# Altium integrated library Freescale DSP 16-Bit.IntLib: 19 symbols (part 1 of 2)
Pins are listed as number, name and electrical type; pins without a type are passive.

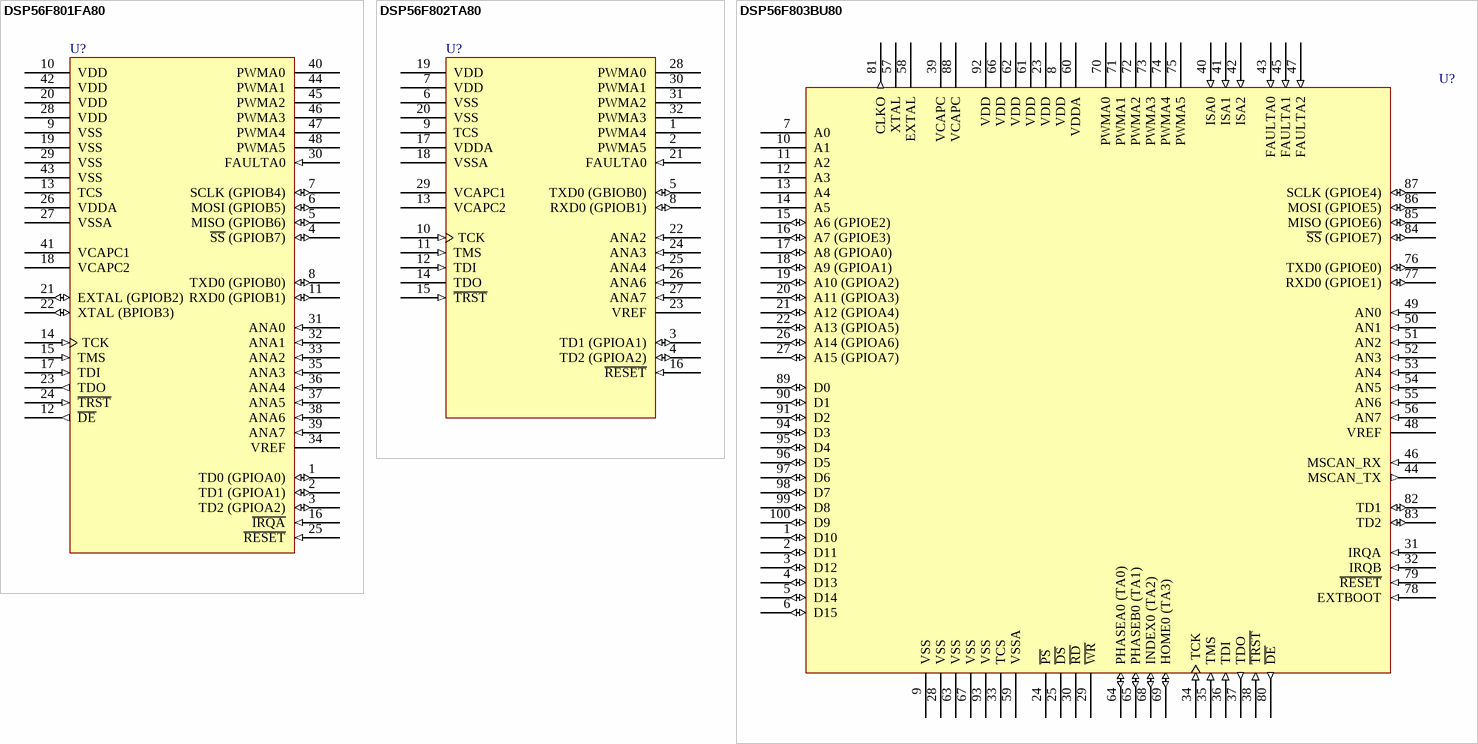
[diagram p0: symbols DSP56F801FA80 to DSP56F803BU80]

## DSP56F801FA80
designator U?
DSP56800 General Purpose 16-Bit Fixed Point DSP; Published: 21-Mar-2003; LatestRevisionDate: 13-Apr-2006; LatestRevisionNote: IPC-7351 Footprint Added.; DatasheetVersion: Rev. 7.0, Jan-2002; PackageVersion: rev7, Jan-2002; PackageReference: 932-03; Publisher: Altium Limited; PackageDescription: 48-Pin Thin Quad Flat Pack 0.5 mm Pitch; ComponentLink1Description: Manufacturer Link; ComponentLink1URL: http://www.freescale.com/; ComponentLink2Description: Datasheet; ComponentLink2URL: http://www.freescale.com/files/dsp/doc/data_sheet/DSP56F801.pdf
footprint 932-03_N (Thin QFP, 48-Leads, Body 7x7mm, Pitch 0.5mm, IPC Medium Density)
footprint 932-03_L (Thin QFP, 48-Leads, Body 7x7mm, Pitch 0.5mm, IPC High Density)
footprint 932-03_M (Thin QFP, 48-Leads, Body 7x7mm, Pitch 0.5mm, IPC Low Density)
3D model DSP56F801-932-03 (48-Pin Thin Quad Flat Pack 0.5 mm Pitch)
pins: 1 TD0 (GPIOA0) (io), 2 TD1 (GPIOA1) (io), 3 TD2 (GPIOA2) (io), 4 ~{SS} (GPIOB7) (io), 5 MISO (GPIOB6) (io), 6 MOSI (GPIOB5) (io), 7 SCLK (GPIOB4) (io), 8 TXD0 (GPIOB0) (io), 9 VSS (power), 10 VDD (power), 11 RXD0 (GPIOB1) (io), 12 ~{DE} (out), 13 TCS, 14 TCK (in), 15 TMS (in), 16 ~{IRQA} (in), 17 TDI (in), 18 VCAPC2 (power), 19 VSS (power), 20 VDD (power), 21 EXTAL (GPIOB2) (io), 22 XTAL (BPIOB3) (io), 23 TDO (out), 24 ~{TRST} (in), 25 ~{RESET} (in), 26 VDDA (power), 27 VSSA (power), 28 VDD (power), 29 VSS (power), 30 FAULTA0 (in), 31 ANA0 (in), 32 ANA1 (in), 33 ANA2 (in), 34 VREF, 35 ANA3 (in), 36 ANA4 (in), 37 ANA5 (in), 38 ANA6 (in), 39 ANA7 (in), 40 PWMA0 (hiz), 41 VCAPC1 (power), 42 VDD (power), 43 VSS (power), 44 PWMA1 (hiz), 45 PWMA2 (hiz), 46 PWMA3 (hiz), 47 PWMA4 (hiz), 48 PWMA5 (hiz)

## DSP56F802TA80
designator U?
DSP56800 General Purpose 16-Bit Fixed Point DSP; Published: 21-Mar-2003; LatestRevisionDate: 13-Apr-2006; LatestRevisionNote: IPC-7351 Footprint Added.; DatasheetVersion: Rev. 0, Jan-2002; PackageReference: 873A; Publisher: Altium Limited; PackageDescription: 32-Pin Thin Quad Flat Pack 0.8 mm Pitch; ComponentLink1Description: Manufacturer Link; ComponentLink1URL: http://www.freescale.com/; ComponentLink2Description: Datasheet; ComponentLink2URL: http://www.freescale.com/files/dsp/doc/data_sheet/DSP56F802.pdf
footprint 873A_N (Thin QFP, 32-Leads, Body 7x7mm, Pitch 0.8mm, IPC Medium Density)
footprint 873A_L (Thin QFP, 32-Leads, Body 7x7mm, Pitch 0.8mm, IPC High Density)
footprint 873A_M (Thin QFP, 32-Leads, Body 7x7mm, Pitch 0.8mm, IPC Low Density)
3D model DSP56F802-873A (32-Pin Thin Quad Flat Pack 0.8 mm Pitch)
pins: 1 PWMA4 (hiz), 2 PWMA5 (hiz), 3 TD1 (GPIOA1) (io), 4 TD2 (GPIOA2) (io), 5 TXD0 (GBIOB0) (io), 6 VSS (power), 7 VDD (power), 8 RXD0 (GPIOB1) (io), 9 TCS, 10 TCK (in), 11 TMS (in), 12 TDI (in), 13 VCAPC2 (power), 14 TDO (hiz), 15 ~{TRST} (in), 16 ~{RESET} (in), 17 VDDA (power), 18 VSSA (power), 19 VDD (power), 20 VSS (power), 21 FAULTA0 (in), 22 ANA2 (in), 23 VREF, 24 ANA3 (in), 25 ANA4 (in), 26 ANA6 (in), 27 ANA7 (in), 28 PWMA0 (hiz), 29 VCAPC1 (power), 30 PWMA1 (hiz), 31 PWMA2 (hiz), 32 PWMA3 (hiz)

## DSP56F803BU80
designator U?
DSP56800 General Purpose 16-Bit Fixed Point DSP; Published: 21-Mar-2003; LatestRevisionDate: 13-Apr-2006; LatestRevisionNote: IPC-7351 Footprint Added.; DatasheetVersion: Rev. 8.0, Jan-2002; PackageVersion: rev4, Jan-2002; PackageReference: 842F-01; Publisher: Altium Limited; PackageDescription: 100-Pin Thin Quad Flat Pack 0.5 mm Pitch; ComponentLink1Description: Manufacturer Link; ComponentLink1URL: http://www.freescale.com/; ComponentLink2Description: Datasheet; ComponentLink2URL: http://www.freescale.com/files/dsp/doc/data_sheet/DSP56F803.pdf
footprint 842F-01_N (Thin QFP, 100-Leads, Body 14x14mm, Pitch 0.5mm, IPC Medium Density)
footprint 842F-01_L (Thin QFP, 100-Leads, Body 14x14mm, Pitch 0.5mm, IPC High Density)
footprint 842F-01_M (Thin QFP, 100-Leads, Body 14x14mm, Pitch 0.5mm, IPC Low Density)
3D model DSP56F803-842F-01 (100-Pin Thin Quad Flat Pack 0.5 mm Pitch)
pins: 1 D10 (io), 2 D11 (io), 3 D12 (io), 4 D13 (io), 5 D14 (io), 6 D15 (io), 7 A0 (hiz), 8 VDD (power), 9 VSS (power), 10 A1 (hiz), 11 A2 (hiz), 12 A3 (hiz), 13 A4 (hiz), 14 A5 (hiz), 15 A6 (GPIOE2) (io), 16 A7 (GPIOE3) (io), 17 A8 (GPIOA0) (io), 18 A9 (GPIOA1) (io), 19 A10 (GPIOA2) (io), 20 A11 (GPIOA3) (io), 21 A12 (GPIOA4) (io), 22 A13 (GPIOA5) (io), 23 VDD (power), 24 ~{PS} (hiz), 25 ~{DS} (hiz), 26 A14 (GPIOA6) (io), 27 A15 (GPIOA7) (io), 28 VSS (power), 29 ~{WR} (hiz), 30 ~{RD} (hiz), 31 IRQA (in), 32 IRQB (in), 33 TCS, 34 TCK (in), 35 TMS (in), 36 TDI (in), 37 TDO (out), 38 ~{TRST} (in), 39 VCAPC (power), 40 ISA0 (in), 41 ISA1 (in), 42 ISA2 (in), 43 FAULTA0 (in), 44 MSCAN_TX (out), 45 FAULTA1 (in), 46 MSCAN_RX (in), 47 FAULTA2 (in), 48 VREF, 49 AN0 (in), 50 AN1 (in), 51 AN2 (in), 52 AN3 (in), 53 AN4 (in), 54 AN5 (in), 55 AN6 (in), 56 AN7 (in), 57 XTAL, 58 EXTAL, 59 VSSA (power), 60 VDDA (power), 61 VDD (power), 62 VDD (power), 63 VSS (power), 64 PHASEA0 (TA0) (io), 65 PHASEB0 (TA1) (io), 66 VDD (power), 67 VSS (power), 68 INDEX0 (TA2) (io), 69 HOME0 (TA3) (io), 70 PWMA0 (hiz), 71 PWMA1 (hiz), 72 PWMA2 (hiz), 73 PWMA3 (hiz), 74 PWMA4 (hiz), 75 PWMA5 (hiz), 76 TXD0 (GPIOE0) (io), 77 RXD0 (GPIOE1) (io), 78 EXTBOOT (in), 79 ~{RESET} (in), 80 ~{DE} (out), 81 CLKO (out), 82 TD1 (io), 83 TD2 (io), 84 ~{SS} (GPIOE7) (io), 85 MISO (GPIOE6) (io), 86 MOSI (GPIOE5) (io), 87 SCLK (GPIOE4) (io), 88 VCAPC (power), 89 D0 (io), 90 D1 (io), 91 D2 (io), 92 VDD (power), 93 VSS (power), 94 D3 (io), 95 D4 (io), 96 D5 (io), 97 D6 (io), 98 D7 (io), 99 D8 (io), 100 D9 (io)

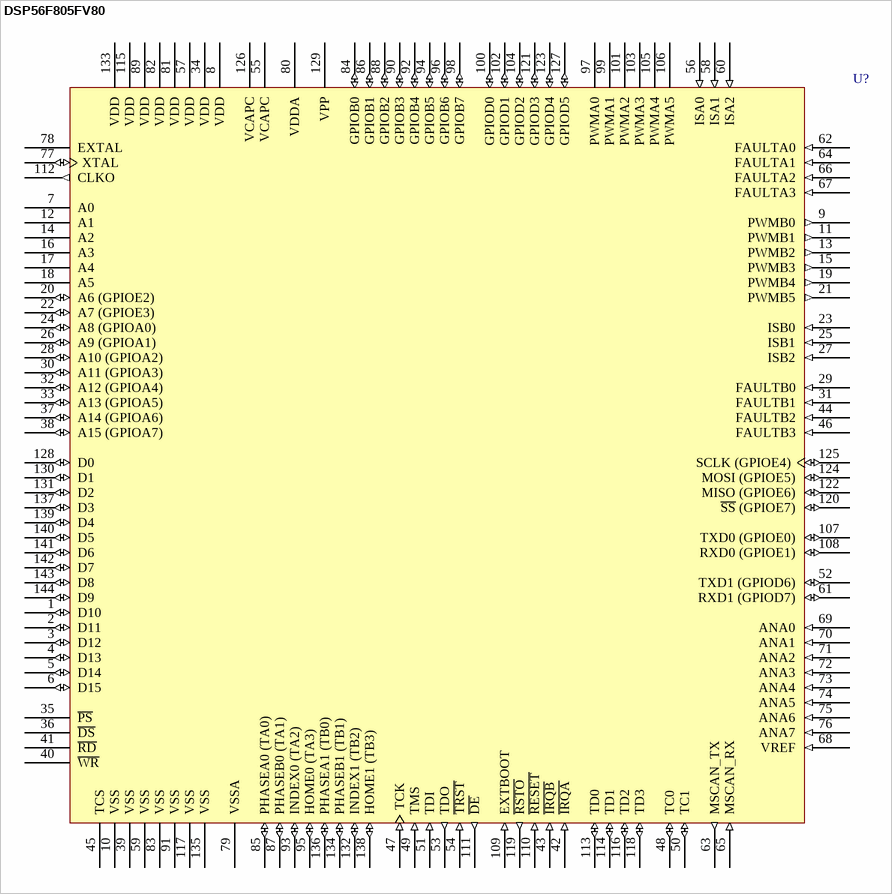
[diagram p1: symbol DSP56F805FV80]

## DSP56F805FV80
designator U?
DSP56800 General Purpose 16-Bit Fixed Point DSP; Published: 21-Mar-2003; LatestRevisionDate: 13-Apr-2006; LatestRevisionNote: IPC-7351 Footprint Added.; DatasheetVersion: Rev. 7.0, Jan-2002; PackageVersion: revF, May-2005; PackageReference: 918-03; Publisher: Altium Limited; PackageDescription: 144-Pin Low Profile Quad Flat Pack 0.5 mm Pitch (918-03); ComponentLink1Description: Manufacturer Link; ComponentLink1URL: http://www.freescale.com/; ComponentLink2Description: Datasheet; ComponentLink2URL: http://www.freescale.com/files/dsp/doc/data_sheet/DSP56F805.pdf
footprint 918-03_N (Thin QFP, 144-Leads, Body 20x20mm, Pitch 0.5mm, IPC Medium Density)
footprint 918-03_L (Thin QFP, 144-Leads, Body 20x20mm, Pitch 0.5mm, IPC High Density)
footprint 918-03_M (Thin QFP, 144-Leads, Body 20x20mm, Pitch 0.5mm, IPC Low Density)
3D model DSP56F805-918-03 (144-Pin Low Profile Quad Flat Pack 0.5 mm Pitch (918-03))
pins: 1 D10 (io), 2 D11 (io), 3 D12 (io), 4 D13 (io), 5 D14 (io), 6 D15 (io), 7 A0 (hiz), 8 VDD (power), 9 PWMB0 (out), 10 VSS (power), 11 PWMB1 (out), 12 A1 (hiz), 13 PWMB2 (out), 14 A2 (hiz), 15 PWMB3 (out), 16 A3 (hiz), 17 A4 (hiz), 18 A5 (hiz), 19 PWMB4 (out), 20 A6 (GPIOE2) (io), 21 PWMB5 (out), 22 A7 (GPIOE3) (io), 23 ISB0 (in), 24 A8 (GPIOA0) (io), 25 ISB1 (in), 26 A9 (GPIOA1) (io), 27 ISB2 (in), 28 A10 (GPIOA2) (io), 29 FAULTB0 (in), 30 A11 (GPIOA3) (io), 31 FAULTB1 (in), 32 A12 (GPIOA4) (io), 33 A13 (GPIOA5) (io), 34 VDD (power), 35 ~{PS} (hiz), 36 ~{DS} (hiz), 37 A14 (GPIOA6) (io), 38 A15 (GPIOA7) (io), 39 VSS (power), 40 ~{WR} (hiz), 41 ~{RD} (hiz), 42 ~{IRQA} (in), 43 ~{IRQB} (in), 44 FAULTB2 (in), 45 TCS, 46 FAULTB3 (in), 47 TCK (in), 48 TC0 (io), 49 TMS (in), 50 TC1 (io), 51 TDI (in), 52 TXD1 (GPIOD6) (io), 53 TDO (out), 54 ~{TRST} (in), 55 VCAPC (power), 56 ISA0 (in), 57 VDD (power), 58 ISA1 (in), 59 VSS (power), 60 ISA2 (in), 61 RXD1 (GPIOD7) (io), 62 FAULTA0 (in), 63 MSCAN_TX (out), 64 FAULTA1 (in), 65 MSCAN_RX (in), 66 FAULTA2 (in), 67 FAULTA3 (in), 68 VREF (in), 69 ANA0 (in), 70 ANA1 (in), 71 ANA2 (in), 72 ANA3 (in), 73 ANA4 (in), 74 ANA5 (in), 75 ANA6 (in), 76 ANA7 (in), 77 XTAL (io), 78 EXTAL, 79 VSSA (power), 80 VDDA (power), 81 VDD (power), 82 VDD (power), 83 VSS (power), 84 GPIOB0 (io), 85 PHASEA0 (TA0) (io), 86 GPIOB1 (io), 87 PHASEB0 (TA1) (io), 88 GPIOB2 (io), 89 VDD (power), 90 GPIOB3 (io), 91 VSS (power), 92 GPIOB4 (io), 93 INDEX0 (TA2) (io), 94 GPIOB5 (io), 95 HOME0 (TA3) (io), 96 GPIOB6 (io), 97 PWMA0 (hiz), 98 GPIOB7 (io), 99 PWMA1 (hiz), 100 GPIOD0 (io), 101 PWMA2 (hiz), 102 GPIOD1 (io), 103 PWMA3 (hiz), 104 GPIOD2 (io), 105 PWMA4 (hiz), 106 PWMA5 (hiz), 107 TXD0 (GPIOE0) (io), 108 RXD0 (GPIOE1) (io), 109 EXTBOOT (in), 110 ~{RESET} (in), 111 ~{DE} (out), 112 CLKO (out), 113 TD0 (io), 114 TD1 (io), 115 VDD (power), 116 TD2 (io), 117 VSS (power), 118 TD3 (io), 119 ~{RSTO} (out), 120 ~{SS} (GPIOE7) (io), 121 GPIOD3 (io), 122 MISO (GPIOE6) (io), 123 GPIOD4 (io), 124 MOSI (GPIOE5) (io), 125 SCLK (GPIOE4) (io), 126 VCAPC (power), 127 GPIOD5 (io), 128 D0 (io), 129 VPP (power), 130 D1 (io), 131 D2 (io), 132 INDEX1 (TB2) (io), 133 VDD (power), 134 PHASEB1 (TB1) (io), 135 VSS (power), 136 PHASEA1 (TB0) (io), 137 D3 (io), 138 HOME1 (TB3) (io), 139 D4 (io), 140 D5 (io), 141 D6 (io), 142 D7 (io), 143 D8 (io), 144 D9 (io)

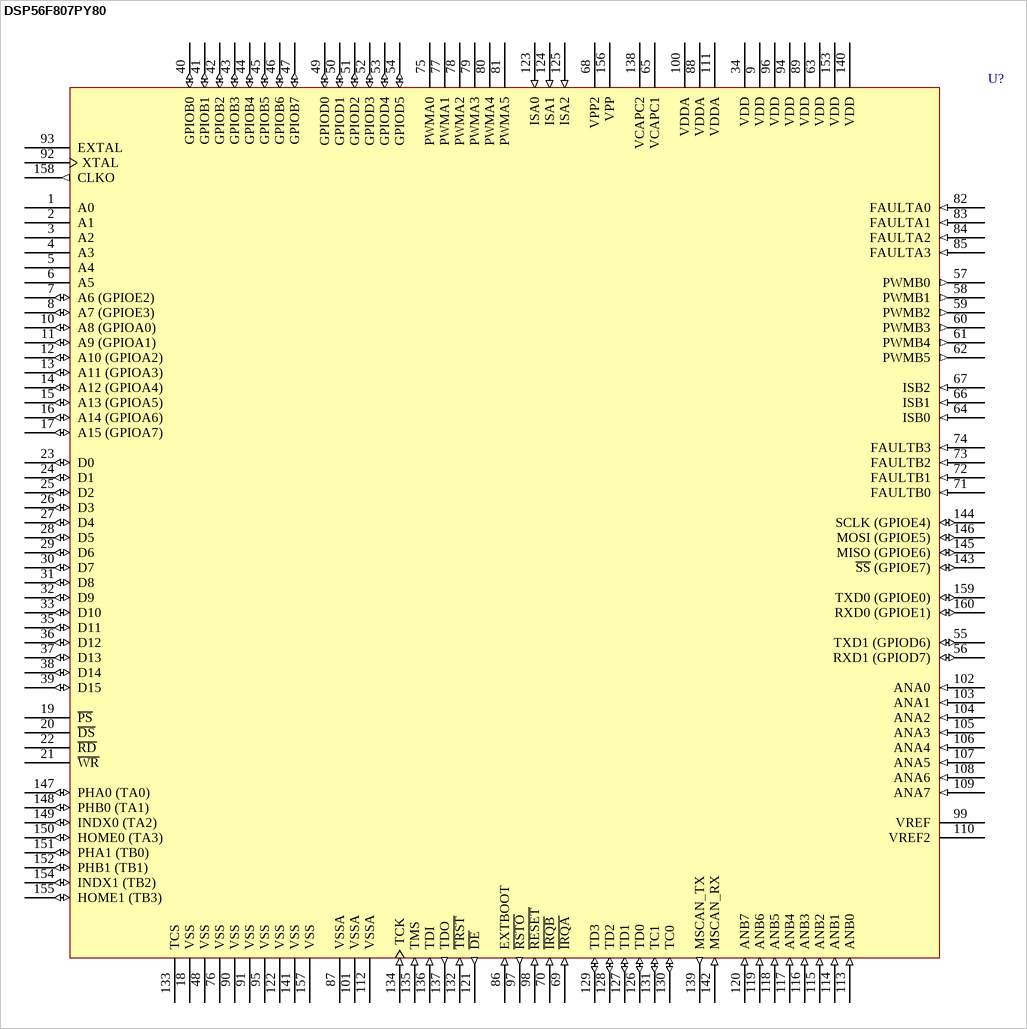
[diagram p2: symbol DSP56F807PY80]

## DSP56F807PY80
designator U?
DSP56800 General Purpose 16-Bit Fixed Point DSP; Published: 21-Mar-2003; LatestRevisionDate: 13-Apr-2006; LatestRevisionNote: IPC-7351 Footprint Added.; DatasheetVersion: Rev. 7.0, Jan-2002; PackageVersion: rev7, Jan-2002; PackageReference: 1259-01; Publisher: Altium Limited; PackageDescription: 160-Pin Thin Quad Flat Pack 0.5 mm Pitch; ComponentLink1Description: Manufacturer Link; ComponentLink1URL: http://www.freescale.com/; ComponentLink2Description: Datasheet; ComponentLink2URL: http://www.freescale.com/files/dsp/doc/data_sheet/DSP56F807.pdf
footprint 1259-01_N (Thin QFP, 160-Leads, Body 24x24mm, Pitch 0.5mm, IPC Medium Density)
footprint 1259-01_L (Thin QFP, 160-Leads, Body 24x24mm, Pitch 0.5mm, IPC High Density)
footprint 1259-01_M (Thin QFP, 160-Leads, Body 24x24mm, Pitch 0.5mm, IPC Low Density)
3D model DSP56F807-1259-01 (160-Pin Thin Quad Flat Pack 0.5 mm Pitch)
pins: 1 A0 (hiz), 2 A1 (hiz), 3 A2 (hiz), 4 A3 (hiz), 5 A4 (hiz), 6 A5 (hiz), 7 A6 (GPIOE2) (io), 8 A7 (GPIOE3) (io), 9 VDD (power), 10 A8 (GPIOA0) (io), 11 A9 (GPIOA1) (io), 12 A10 (GPIOA2) (io), 13 A11 (GPIOA3) (io), 14 A12 (GPIOA4) (io), 15 A13 (GPIOA5) (io), 16 A14 (GPIOA6) (io), 17 A15 (GPIOA7) (io), 18 VSS (power), 19 ~{PS} (hiz), 20 ~{DS} (hiz), 21 ~{WR} (hiz), 22 ~{RD} (hiz), 23 D0 (io), 24 D1 (io), 25 D2 (io), 26 D3 (io), 27 D4 (io), 28 D5 (io), 29 D6 (io), 30 D7 (io), 31 D8 (io), 32 D9 (io), 33 D10 (io), 34 VDD (power), 35 D11 (io), 36 D12 (io), 37 D13 (io), 38 D14 (io), 39 D15 (io), 40 GPIOB0 (io), 41 GPIOB1 (io), 42 GPIOB2 (io), 43 GPIOB3 (io), 44 GPIOB4 (io), 45 GPIOB5 (io), 46 GPIOB6 (io), 47 GPIOB7 (io), 48 VSS (power), 49 GPIOD0 (io), 50 GPIOD1 (io), 51 GPIOD2 (io), 52 GPIOD3 (io), 53 GPIOD4 (io), 54 GPIOD5 (io), 55 TXD1 (GPIOD6) (io), 56 RXD1 (GPIOD7) (io), 57 PWMB0 (out), 58 PWMB1 (out), 59 PWMB2 (out), 60 PWMB3 (out), 61 PWMB4 (out), 62 PWMB5 (out), 63 VDD (power), 64 ISB0 (in), 65 VCAPC1 (power), 66 ISB1 (in), 67 ISB2 (in), 68 VPP2, 69 ~{IRQA} (in), 70 ~{IRQB} (in), 71 FAULTB0 (in), 72 FAULTB1 (in), 73 FAULTB2 (in), 74 FAULTB3 (in), 75 PWMA0 (hiz), 76 VSS (power), 77 PWMA1 (hiz), 78 PWMA2 (hiz), 79 PWMA3 (hiz), 80 PWMA4 (hiz), 81 PWMA5 (hiz), 82 FAULTA0 (in), 83 FAULTA1 (in), 84 FAULTA2 (in), 85 FAULTA3 (in), 86 EXTBOOT (in), 87 VSSA (power), 88 VDDA (power), 89 VDD (power), 90 VSS (power), 91 VSS (power), 92 XTAL, 93 EXTAL, 94 VDD (power), 95 VSS (power), 96 VDD (power), 97 ~{RSTO} (out), 98 ~{RESET} (in), 99 VREF, 100 VDDA (power), 101 VSSA (power), 102 ANA0 (in), 103 ANA1 (in), 104 ANA2 (in), 105 ANA3 (in), 106 ANA4 (in), 107 ANA5 (in), 108 ANA6 (in), 109 ANA7 (in), 110 VREF2, 111 VDDA (power), 112 VSSA (power), 113 ANB0 (in), 114 ANB1 (in), 115 ANB2 (in), 116 ANB3 (in), 117 ANB4 (in), 118 ANB5 (in), 119 ANB6 (in), 120 ANB7 (in), 121 ~{DE} (out), 122 VSS (power), 123 ISA0 (in), 124 ISA1 (in), 125 ISA2 (in), 126 TD0 (io), 127 TD1 (io), 128 TD2 (io), 129 TD3 (io), 130 TC0 (io), 131 TC1 (io), 132 ~{TRST} (in), 133 TCS, 134 TCK (in), 135 TMS (in), 136 TDI (in), 137 TDO (out), 138 VCAPC2 (power), 139 MSCAN_TX (out), 140 VDD (power), 141 VSS (power), 142 MSCAN_RX (in), 143 ~{SS} (GPIOE7) (io), 144 SCLK (GPIOE4) (io), 145 MISO (GPIOE6) (io), 146 MOSI (GPIOE5) (io), 147 PHA0 (TA0) (io), 148 PHB0 (TA1) (io), 149 INDX0 (TA2) (io), 150 HOME0 (TA3) (io), 151 PHA1 (TB0) (io), 152 PHB1 (TB1) (io), 153 VDD (power), 154 INDX1 (TB2) (io), 155 HOME1 (TB3) (io), 156 VPP, 157 VSS (power), 158 CLKO (out), 159 TXD0 (GPIOE0) (io), 160 RXD0 (GPIOE1) (io)

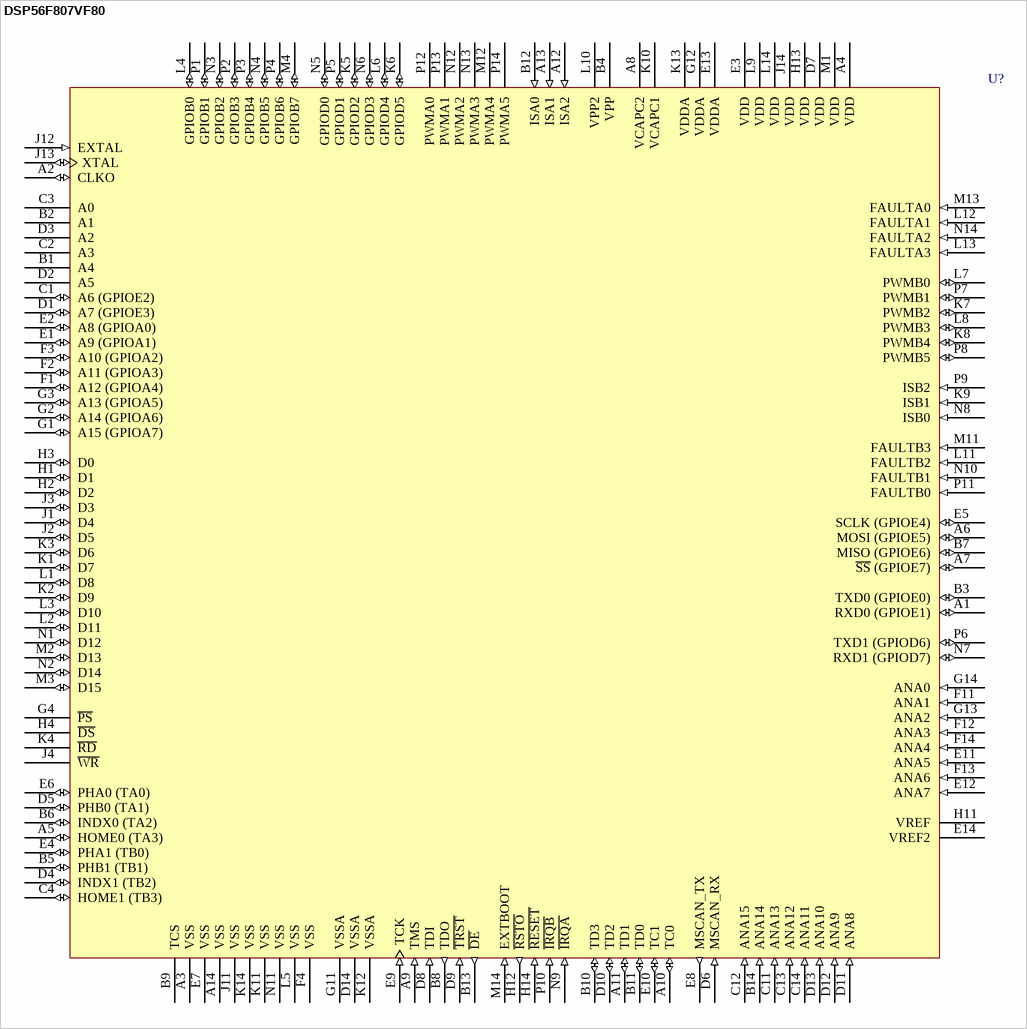
[diagram p3: symbol DSP56F807VF80]

## DSP56F807VF80
designator U?
DSP56800 General Purpose 16-Bit Fixed Point DSP; Published: 21-Mar-2003; LatestRevisionDate: 13-Apr-2006; LatestRevisionNote: IPC-7351 Footprint Added.; DatasheetVersion: Rev. 7.0, Jan-2002; PackageVersion: rev7, Jan-2002; PackageReference: 1268-01; Publisher: Altium Limited; PackageDescription: 160-Ball MAP-Ball Grid Array 1 mm Pitch; ComponentLink1Description: Manufacturer Link; ComponentLink1URL: http://www.freescale.com/; ComponentLink2Description: Datasheet; ComponentLink2URL: http://www.freescale.com/files/dsp/doc/data_sheet/DSP56F807.pdf
footprint 1268-01 (BGA, 160-Leads, Body 15x15mm, Pitch 1mm)
3D model DSP56F807-1268-01 (160-Ball MAP-Ball Grid Array 1 mm Pitch)
pins: A1 RXD0 (GPIOE1) (io), A2 CLKO (io), A3 VSS (power), A4 VDD (power), A5 HOME0 (TA3) (io), A6 MOSI (GPIOE5) (io), A7 ~{SS} (GPIOE7) (io), A8 VCAPC2, A9 TMS (in), A10 TC0 (io), A11 TD1 (io), A12 ISA2 (in), A13 ISA1 (in), A14 VSS (power), B1 A4 (hiz), B2 A1 (hiz), B3 TXD0 (GPIOE0) (io), B4 VPP, B5 PHB1 (TB1) (io), B6 INDX0 (TA2) (io), B7 MISO (GPIOE6) (io), B8 TDO (out), B9 TCS, B10 TD3 (io), B11 TD0 (io), B12 ISA0 (in), B13 ~{DE} (out), B14 ANA14 (in), C1 A6 (GPIOE2) (io), C2 A3 (hiz), C3 A0 (hiz), C4 HOME1 (TB3) (io), C11 ANA13 (in), C12 ANA15 (in), C13 ANA12 (in), C14 ANA11 (in), D1 A7 (GPIOE3) (io), D2 A5 (hiz), D3 A2 (hiz), D4 INDX1 (TB2) (io), D5 PHB0 (TA1) (io), D6 MSCAN_RX (in), D7 VDD (power), D8 TDI (in), D9 ~{TRST} (in), D10 TD2 (io), D11 ANA8 (in), D12 ANA9 (in), D13 ANA10 (in), D14 VSSA (power), E1 A9 (GPIOA1) (io), E2 A8 (GPIOA0) (io), E3 VDD (power), E4 PHA1 (TB0) (io), E5 SCLK (GPIOE4) (io), E6 PHA0 (TA0) (io), E7 VSS (power), E8 MSCAN_TX (out), E9 TCK (in), E10 TC1 (io), E11 ANA5 (in), E12 ANA7 (in), E13 VDDA (power), E14 VREF2, F1 A12 (GPIOA4) (io), F2 A11 (GPIOA3) (io), F3 A10 (GPIOA2) (io), F4 VSS (power), F11 ANA1 (in), F12 ANA3 (in), F13 ANA6 (in), F14 ANA4 (in), G1 A15 (GPIOA7) (io), G2 A14 (GPIOA6) (io), G3 A13 (GPIOA5) (io), G4 ~{PS} (hiz), G11 VSSA (power), G12 VDDA (power), G13 ANA2 (in), G14 ANA0 (in), H1 D1 (io), H2 D2 (io), H3 D0 (io), H4 ~{DS} (hiz), H11 VREF, H12 ~{RSTO} (out), H13 VDD (power), H14 ~{RESET} (in), J1 D4 (io), J2 D5 (io), J3 D3 (io), J4 ~{WR} (hiz), J11 VSS (power), J12 EXTAL (in), J13 XTAL (io), J14 VDD (power), K1 D7 (io), K2 D9 (io), K3 D6 (io), K4 ~{RD} (hiz), K5 GPIOD2 (io), K6 GPIOD5 (io), K7 PWMB2 (io), K8 PWMB4 (io), K9 ISB1 (in), K10 VCAPC1, K11 VSS (power), K12 VSSA (power), K13 VDDA (power), K14 VSS (power), L1 D8 (io), L2 D11 (io), L3 D10 (io), L4 GPIOB0 (io), L5 VSS (power), L6 GPIOD4 (io), L7 PWMB0 (io), L8 PWMB3 (io), L9 VDD (power), L10 VPP2, L11 FAULTB2 (in), L12 FAULTA1 (in), L13 FAULTA3 (in), L14 VDD (power), M1 VDD (power), M2 D13 (io), M3 D15 (io), M4 GPIOB7 (io), M11 FAULTB3 (in), M12 PWMA4 (hiz), M13 FAULTA0 (in), M14 EXTBOOT (in), N1 D12 (io), N2 D14 (io), N3 GPIOB2 (io), N4 GPIOB5 (io), N5 GPIOD0 (io), N6 GPIOD3 (io), N7 RXD1 (GPIOD7) (io), N8 ISB0 (in), N9 ~{IRQA} (in), N10 FAULTB1 (in), N11 VSS (power), N12 PWMA2 (hiz), N13 PWMA3 (hiz), N14 FAULTA2 (in), P1 GPIOB1 (io), P2 GPIOB3 (io), P3 GPIOB4 (io), P4 GPIOB6 (io), P5 GPIOD1 (io), P6 TXD1 (GPIOD6) (io), P7 PWMB1 (io), P8 PWMB5 (io), P9 ISB2 (in), P10 ~{IRQB} (in), P11 FAULTB0 (in), P12 PWMA0 (hiz), P13 PWMA1 (hiz), P14 PWMA5 (hiz)

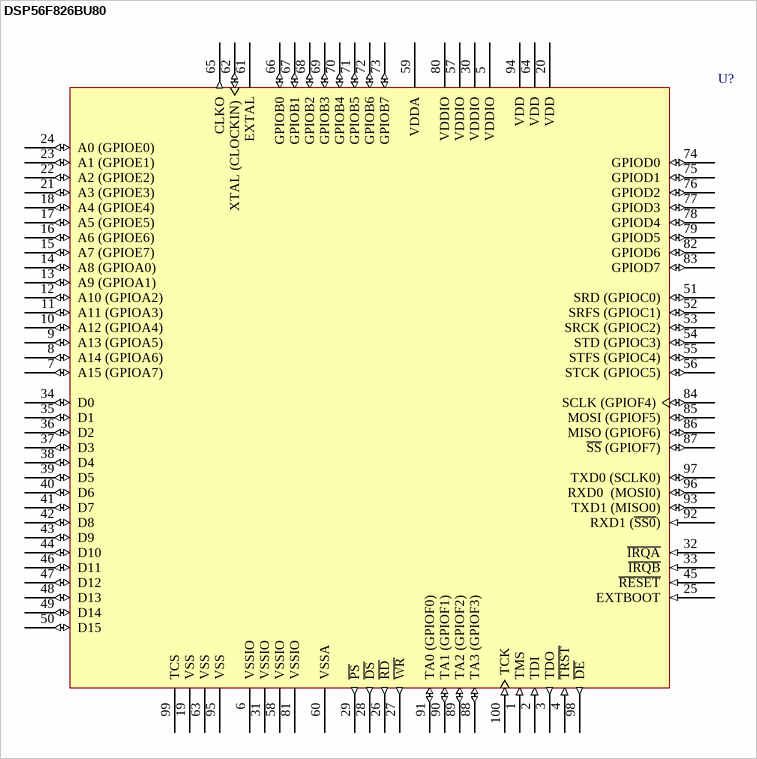
[diagram p4: symbol DSP56F826BU80]

## DSP56F826BU80
designator U?
DSP56800 General Purpose 16-Bit Fixed Point DSP; Published: 21-Mar-2003; LatestRevisionDate: 13-Apr-2006; LatestRevisionNote: IPC-7351 Footprint Added.; DatasheetVersion: Rev. 4.0, Jan-2002; PackageVersion: rev4, Jan-2002; PackageReference: 842F-01; Publisher: Altium Limited; PackageDescription: 100-Pin Thin Quad Flat Pack 0.5 mm Pitch; ComponentLink1Description: Manufacturer Link; ComponentLink1URL: http://www.freescale.com/; ComponentLink2Description: Datasheet; ComponentLink2URL: http://www.freescale.com/files/dsp/doc/data_sheet/DSP56F826.pdf
footprint 842F-01_N (Thin QFP, 100-Leads, Body 14x14mm, Pitch 0.5mm, IPC Medium Density)
footprint 842F-01_L (Thin QFP, 100-Leads, Body 14x14mm, Pitch 0.5mm, IPC High Density)
footprint 842F-01_M (Thin QFP, 100-Leads, Body 14x14mm, Pitch 0.5mm, IPC Low Density)
3D model DSP56F826-842F-01 (100-Pin Thin Quad Flat Pack 0.5 mm Pitch)
pins: 1 TMS (in), 2 TDI (in), 3 TDO (out), 4 ~{TRST} (in), 5 VDDIO (power), 6 VSSIO (power), 7 A15 (GPIOA7) (io), 8 A14 (GPIOA6) (io), 9 A13 (GPIOA5) (io), 10 A12 (GPIOA4) (io), 11 A11 (GPIOA3) (io), 12 A10 (GPIOA2) (io), 13 A9 (GPIOA1) (io), 14 A8 (GPIOA0) (io), 15 A7 (GPIOE7) (io), 16 A6 (GPIOE6) (io), 17 A5 (GPIOE5) (io), 18 A4 (GPIOE4) (io), 19 VSS (power), 20 VDD (power), 21 A3 (GPIOE3) (io), 22 A2 (GPIOE2) (io), 23 A1 (GPIOE1) (io), 24 A0 (GPIOE0) (io), 25 EXTBOOT (in), 26 ~{RD} (out), 27 ~{WR} (out), 28 ~{DS} (out), 29 ~{PS} (out), 30 VDDIO (power), 31 VSSIO (power), 32 ~{IRQA} (in), 33 ~{IRQB} (in), 34 D0 (io), 35 D1 (io), 36 D2 (io), 37 D3 (io), 38 D4 (io), 39 D5 (io), 40 D6 (io), 41 D7 (io), 42 D8 (io), 43 D9 (io), 44 D10 (io), 45 ~{RESET} (in), 46 D11 (io), 47 D12 (io), 48 D13 (io), 49 D14 (io), 50 D15 (io), 51 SRD (GPIOC0) (io), 52 SRFS (GPIOC1) (io), 53 SRCK (GPIOC2) (io), 54 STD (GPIOC3) (io), 55 STFS (GPIOC4) (io), 56 STCK (GPIOC5) (io), 57 VDDIO (power), 58 VSSIO (power), 59 VDDA (power), 60 VSSA (power), 61 EXTAL, 62 XTAL (CLOCKIN) (io), 63 VSS (power), 64 VDD (power), 65 CLKO (out), 66 GPIOB0 (io), 67 GPIOB1 (io), 68 GPIOB2 (io), 69 GPIOB3 (io), 70 GPIOB4 (io), 71 GPIOB5 (io), 72 GPIOB6 (io), 73 GPIOB7 (io), 74 GPIOD0 (io), 75 GPIOD1 (io), 76 GPIOD2 (io), 77 GPIOD3 (io), 78 GPIOD4 (io), 79 GPIOD5 (io), 80 VDDIO (power), 81 VSSIO (power), 82 GPIOD6 (io), 83 GPIOD7 (io), 84 SCLK (GPIOF4) (io), 85 MOSI (GPIOF5) (io), 86 MISO (GPIOF6) (io), 87 ~{SS} (GPIOF7) (io), 88 TA3 (GPIOF3) (io), 89 TA2 (GPIOF2) (io), 90 TA1 (GPIOF1) (io), 91 TA0 (GPIOF0) (io), 92 RXD1 (~{SS0}) (in), 93 TXD1 (MISO0) (io), 94 VDD (power), 95 VSS (power), 96 RXD0  (MOSI0) (io), 97 TXD0 (SCLK0) (io), 98 ~{DE} (out), 99 TCS, 100 TCK (in)

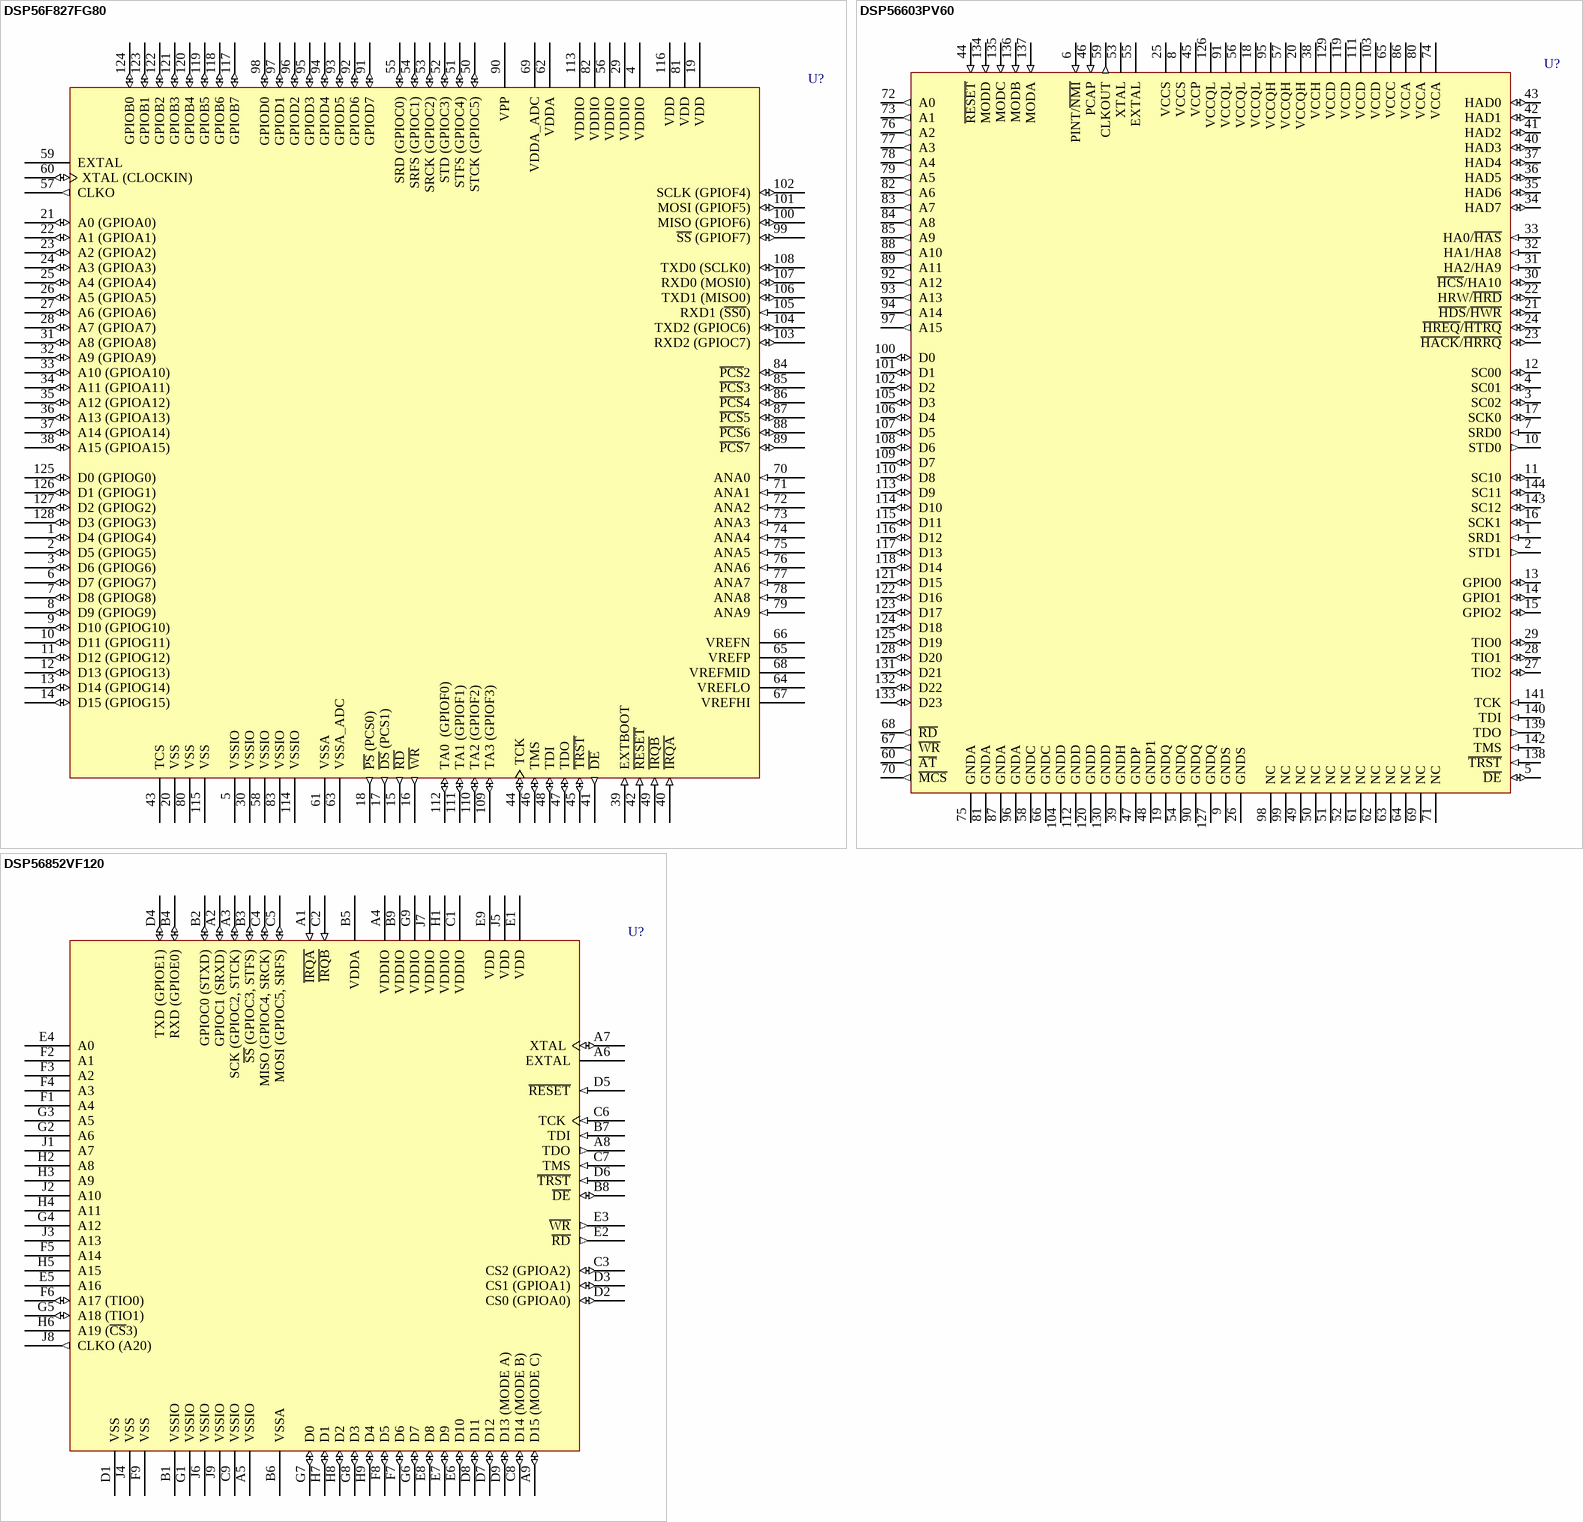
[diagram p5: symbols DSP56F827FG80 to DSP56852VF120]

## DSP56F827FG80
designator U?
DSP56800 General Purpose 16-Bit Fixed Point DSP; Published: 21-Mar-2003; LatestRevisionDate: 13-Apr-2006; LatestRevisionNote: IPC-7351 Footprint Added.; DatasheetVersion: Rev. 3.0, Jan-2002; PackageVersion: Dec-1994; PackageReference: 1129-01; Publisher: Altium Limited; PackageDescription: 128-Pin Thin Quad Flat Pack Rectangular 0.5 mm Pitch; ComponentLink1Description: Manufacturer Link; ComponentLink1URL: http://www.freescale.com/; ComponentLink2Description: Datasheet; ComponentLink2URL: http://www.freescale.com/files/dsp/doc/data_sheet/DSP56F827.pdf
footprint 1129-01_N (Thin QFP, 128-Leads, Body 20x14 mm, Pitch 0.5mm, IPC Medium Density)
footprint 1129-01_L (Thin QFP, 128-Leads, Body 20x14 mm, Pitch 0.5mm, IPC High Density)
footprint 1129-01_M (Thin QFP, 128-Leads, Body 20x14 mm, Pitch 0.5mm, IPC Low Density)
3D model DSP56F827-1129-01 (128-Pin Thin Quad Flat Pack Rectangular 0.5 mm Pitch)
pins: 1 D4 (GPIOG4) (io), 2 D5 (GPIOG5) (io), 3 D6 (GPIOG6) (io), 4 VDDIO (power), 5 VSSIO (power), 6 D7 (GPIOG7) (io), 7 D8 (GPIOG8) (io), 8 D9 (GPIOG9) (io), 9 D10 (GPIOG10) (io), 10 D11 (GPIOG11) (io), 11 D12 (GPIOG12) (io), 12 D13 (GPIOG13) (io), 13 D14 (GPIOG14) (io), 14 D15 (GPIOG15) (io), 15 ~{RD} (out), 16 ~{WR} (out), 17 ~{DS} (PCS1) (out), 18 ~{PS} (PCS0) (out), 19 VDD (power), 20 VSS (power), 21 A0 (GPIOA0) (io), 22 A1 (GPIOA1) (io), 23 A2 (GPIOA2) (io), 24 A3 (GPIOA3) (io), 25 A4 (GPIOA4) (io), 26 A5 (GPIOA5) (io), 27 A6 (GPIOA6) (io), 28 A7 (GPIOA7) (io), 29 VDDIO (power), 30 VSSIO (power), 31 A8 (GPIOA8) (io), 32 A9 (GPIOA9) (io), 33 A10 (GPIOA10) (io), 34 A11 (GPIOA11) (io), 35 A12 (GPIOA12) (io), 36 A13 (GPIOA13) (io), 37 A14 (GPIOA14) (io), 38 A15 (GPIOA15) (io), 39 EXTBOOT (in), 40 ~{IRQA} (in), 41 ~{DE} (out), 42 ~{RESET} (in), 43 TCS, 44 TCK (io), 45 ~{TRST} (io), 46 TMS (io), 47 TDO (io), 48 TDI (io), 49 ~{IRQB} (in), 50 STCK (GPIOC5) (io), 51 STFS (GPIOC4) (io), 52 STD (GPIOC3) (io), 53 SRCK (GPIOC2) (io), 54 SRFS (GPIOC1) (io), 55 SRD (GPIOC0) (io), 56 VDDIO (power), 57 CLKO (out), 58 VSSIO (power), 59 EXTAL, 60 XTAL (CLOCKIN) (io), 61 VSSA (power), 62 VDDA (power), 63 VSSA_ADC (power), 64 VREFLO, 65 VREFP, 66 VREFN, 67 VREFHI, 68 VREFMID, 69 VDDA_ADC (power), 70 ANA0 (in), 71 ANA1 (in), 72 ANA2 (in), 73 ANA3 (in), 74 ANA4 (in), 75 ANA5 (in), 76 ANA6 (in), 77 ANA7 (in), 78 ANA8 (in), 79 ANA9 (in), 80 VSS (power), 81 VDD (power), 82 VDDIO (power), 83 VSSIO (power), 84 ~{PCS}2 (io), 85 ~{PCS}3 (io), 86 ~{PCS}4 (io), 87 ~{PCS}5 (io), 88 ~{PCS}6 (io), 89 ~{PCS}7 (io), 90 VPP, 91 GPIOD7 (io), 92 GPIOD6 (io), 93 GPIOD5 (io), 94 GPIOD4 (io), 95 GPIOD3 (io), 96 GPIOD2 (io), 97 GPIOD1 (io), 98 GPIOD0 (io), 99 ~{SS} (GPIOF7) (io), 100 MISO (GPIOF6) (io), 101 MOSI (GPIOF5) (io), 102 SCLK (GPIOF4) (io), 103 RXD2 (GPIOC7) (io), 104 TXD2 (GPIOC6) (io), 105 RXD1 (~{SS0}) (in), 106 TXD1 (MISO0) (io), 107 RXD0 (MOSI0) (io), 108 TXD0 (SCLK0) (io), 109 TA3 (GPIOF3) (io), 110 TA2 (GPIOF2) (io), 111 TA1 (GPIOF1) (io), 112 TA0  (GPIOF0) (io), 113 VDDIO (power), 114 VSSIO (power), 115 VSS (power), 116 VDD (power), 117 GPIOB7 (io), 118 GPIOB6 (io), 119 GPIOB5 (io), 120 GPIOB4 (io), 121 GPIOB3 (io), 122 GPIOB2 (io), 123 GPIOB1 (io), 124 GPIOB0 (io), 125 D0 (GPIOG0) (io), 126 D1 (GPIOG1) (io), 127 D2 (GPIOG2) (io), 128 D3 (GPIOG3) (io)

## DSP56603PV60
designator U?
16-Bit Digital Signal Processor; Published: 21-Mar-2003; LatestRevisionDate: 13-Apr-2006; LatestRevisionNote: IPC-7351 Footprint Added.; DatasheetVersion: 1996; PackageVersion: revF, May-2005; PackageReference: 918-03; Publisher: Altium Limited; PackageDescription: 144-Pin Low Profile Quad Flat Pack 0.5 mm Pitch (918-03); ComponentLink1Description: Manufacturer Link; ComponentLink1URL: http://www.freescale.com/
footprint 918-03_N (Thin QFP, 144-Leads, Body 20x20mm, Pitch 0.5mm, IPC Medium Density)
footprint 918-03_L (Thin QFP, 144-Leads, Body 20x20mm, Pitch 0.5mm, IPC High Density)
footprint 918-03_M (Thin QFP, 144-Leads, Body 20x20mm, Pitch 0.5mm, IPC Low Density)
3D model DSP56603-918-03 (144-Pin Low Profile Quad Flat Pack 0.5 mm Pitch (918-03))
pins: 1 SRD1 (in), 2 STD1 (out), 3 SC02 (io), 4 SC01 (io), 5 ~{DE} (io), 6 PINT/~{NMI} (in), 7 SRD0 (in), 8 VCCS (power), 9 GNDS (power), 10 STD0 (out), 11 SC10 (io), 12 SC00 (io), 13 GPIO0 (io), 14 GPIO1 (io), 15 GPIO2 (io), 16 SCK1 (io), 17 SCK0 (io), 18 VCCQL (power), 19 GNDQ (power), 20 VCCQH (power), 21 ~{HDS}/~{HWR} (io), 22 HRW/~{HRD} (io), 23 ~{HACK}/~{HRRQ} (io), 24 ~{HREQ}/~{HTRQ} (io), 25 VCCS (power), 26 GNDS (power), 27 TIO2 (io), 28 TIO1 (io), 29 TIO0 (io), 30 ~{HCS}/HA10 (io), 31 HA2/HA9 (in), 32 HA1/HA8 (in), 33 HA0/~{HAS} (in), 34 HAD7 (io), 35 HAD6 (io), 36 HAD5 (io), 37 HAD4 (io), 38 VCCH (power), 39 GNDH (power), 40 HAD3 (io), 41 HAD2 (io), 42 HAD1 (io), 43 HAD0 (io), 44 ~{RESET} (in), 45 VCCP (power), 46 PCAP (in), 47 GNDP (power), 48 GNDP1 (power), 49 NC, 50 NC, 51 NC, 52 NC, 53 XTAL, 54 GNDQ (power), 55 EXTAL, 56 VCCQL (power), 57 VCCQH (power), 58 GNDC (power), 59 CLKOUT (out), 60 ~{AT} (out), 61 NC, 62 NC, 63 NC, 64 NC, 65 VCCC (power), 66 GNDC (power), 67 ~{WR} (out), 68 ~{RD} (out), 69 NC, 70 ~{MCS} (out), 71 NC, 72 A0 (out), 73 A1 (out), 74 VCCA (power), 75 GNDA (power), 76 A2 (out), 77 A3 (out), 78 A4 (out), 79 A5 (out), 80 VCCA (power), 81 GNDA (power), 82 A6 (out), 83 A7 (out), 84 A8 (out), 85 A9 (out), 86 VCCA (power), 87 GNDA (power), 88 A10 (out), 89 A11 (out), 90 GNDQ (power), 91 VCCQL (power), 92 A12 (out), 93 A13 (out), 94 A14 (out), 95 VCCQH (power), 96 GNDA (power), 97 A15 (out), 98 NC, 99 NC, 100 D0 (io), 101 D1 (io), 102 D2 (io), 103 VCCD (power), 104 GNDD (power), 105 D3 (io), 106 D4 (io), 107 D5 (io), 108 D6 (io), 109 D7 (io), 110 D8 (io), 111 VCCD (power), 112 GNDD (power), 113 D9 (io), 114 D10 (io), 115 D11 (io), 116 D12 (io), 117 D13 (io), 118 D14 (io), 119 VCCD (power), 120 GNDD (power), 121 D15 (io), 122 D16 (io), 123 D17 (io), 124 D18 (io), 125 D19 (io), 126 VCCQL (power), 127 GNDQ (power), 128 D20 (io), 129 VCCD (power), 130 GNDD (power), 131 D21 (io), 132 D22 (io), 133 D23 (io), 134 MODD (in), 135 MODC (in), 136 MODB (in), 137 MODA (in), 138 ~{TRST} (in), 139 TDO (out), 140 TDI (in), 141 TCK (in), 142 TMS (in), 143 SC12 (io), 144 SC11 (io)

## DSP56852VF120
designator U?
DSP56800E General Purpose 16-Bit Fixed Point DSP; Published: 21-Mar-2003; LatestRevisionDate: 13-Apr-2006; LatestRevisionNote: IPC-7351 Footprint Added.; DatasheetVersion: Rev. 2.0, Apr-2002; PackageVersion: rev2, Apr-2002; PackageReference: 1224B-01; Publisher: Altium Limited; PackageDescription: 81-Ball MAP-Ball Grid Array 0.8 mm Pitch; ComponentLink1Description: Manufacturer Link; ComponentLink1URL: http://www.freescale.com/; ComponentLink2Description: Datasheet; ComponentLink2URL: http://www.freescale.com/files/dsp/doc/data_sheet/DSP56852.pdf
footprint 1224B-01 (BGA, 81-Leads, Body 8x8mm, Pitch 0.8mm)
3D model DSP56852-1224B-01 (81-Ball MAP-Ball Grid Array 0.8 mm Pitch)
pins: A1 ~{IRQA} (in), A2 GPIOC1 (SRXD) (io), A3 SCK (GPIOC2, STCK) (io), A4 VDDIO (power), A5 VSSIO (power), A6 EXTAL, A7 XTAL (io), A8 TDO (out), A9 D15 (MODE C) (io), B1 VSSIO (power), B2 GPIOC0 (STXD) (io), B3 ~{SS} (GPIOC3, STFS) (io), B4 RXD (GPIOE0) (io), B5 VDDA (power), B6 VSSA (power), B7 TDI (in), B8 ~{DE} (io), B9 VDDIO (power), C1 VDDIO (power), C2 ~{IRQB} (in), C3 CS2 (GPIOA2) (io), C4 MISO (GPIOC4, SRCK) (io), C5 MOSI (GPIOC5, SRFS) (io), C6 TCK (in), C7 TMS (in), C8 D14 (MODE B) (io), C9 VSSIO (power), D1 VSS (power), D2 CS0 (GPIOA0) (io), D3 CS1 (GPIOA1) (io), D4 TXD (GPIOE1) (io), D5 ~{RESET} (in), D6 ~{TRST} (in), D7 D12 (io), D8 D11 (io), D9 D13 (MODE A) (io), E1 VDD (power), E2 ~{RD} (out), E3 ~{WR} (out), E4 A0 (hiz), E5 A16 (hiz), E6 D10 (io), E7 D9 (io), E8 D8 (io), E9 VDD (power), F1 A4 (hiz), F2 A1 (hiz), F3 A2 (hiz), F4 A3 (hiz), F5 A14 (hiz), F6 A17 (TIO0) (io), F7 D6 (io), F8 D5 (io), F9 VSS (power), G1 VSSIO (power), G2 A6 (hiz), G3 A5 (hiz), G4 A12 (hiz), G5 A18 (TIO1) (io), G6 D7 (io), G7 D0 (io), G8 D3 (io), G9 VDDIO (power), H1 VDDIO (power), H2 A8 (hiz), H3 A9 (hiz), H4 A11 (hiz), H5 A15 (hiz), H6 A19 (~{CS}3) (hiz), H7 D1 (io), H8 D2 (io), H9 D4 (io), J1 A7 (hiz), J2 A10 (hiz), J3 A13 (hiz), J4 VSS (power), J5 VDD (power), J6 VSSIO (power), J7 VDDIO (power), J8 CLKO (A20) (out), J9 VSSIO (power)

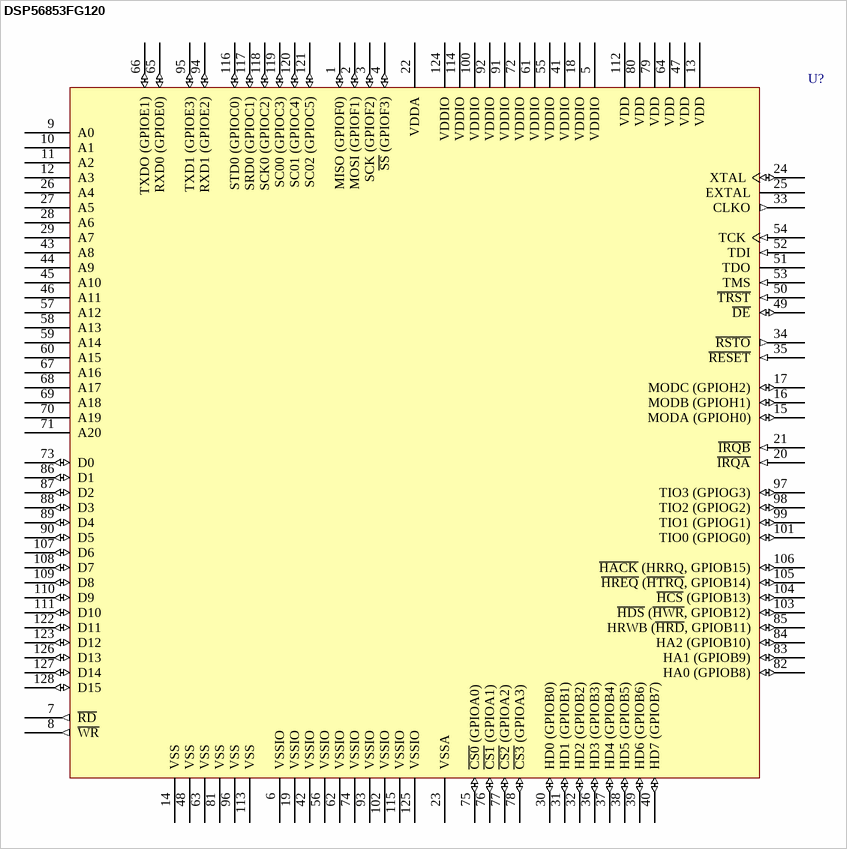
[diagram p6: symbol DSP56853FG120]

## DSP56853FG120
designator U?
DSP56800E General Purpose 16-Bit Fixed Point DSP; Published: 21-Mar-2003; LatestRevisionDate: 13-Apr-2006; LatestRevisionNote: IPC-7351 Footprint Added.; DatasheetVersion: Rev. 1.0, Jan-2002; PackageVersion: Dec-1994; PackageReference: 1129-01; Publisher: Altium Limited; PackageDescription: 128-Pin Thin Quad Flat Pack Rectangular 0.5 mm Pitch; ComponentLink1Description: Manufacturer Link; ComponentLink1URL: http://www.freescale.com/; ComponentLink2Description: Datasheet; ComponentLink2URL: http://www.freescale.com/files/dsp/doc/data_sheet/DSP56853.pdf
footprint 1129-01_N (Thin QFP, 128-Leads, Body 20x14 mm, Pitch 0.5mm, IPC Medium Density)
footprint 1129-01_L (Thin QFP, 128-Leads, Body 20x14 mm, Pitch 0.5mm, IPC High Density)
footprint 1129-01_M (Thin QFP, 128-Leads, Body 20x14 mm, Pitch 0.5mm, IPC Low Density)
3D model DSP56853-1129-01 (128-Pin Thin Quad Flat Pack Rectangular 0.5 mm Pitch)
pins: 1 MISO (GPIOF0) (io), 2 MOSI (GPIOF1) (io), 3 SCK (GPIOF2) (io), 4 ~{SS} (GPIOF3) (io), 5 VDDIO (power), 6 VSSIO (power), 7 ~{RD} (out), 8 ~{WR} (out), 9 A0 (hiz), 10 A1 (hiz), 11 A2 (hiz), 12 A3 (hiz), 13 VDD (power), 14 VSS (power), 15 MODA (GPIOH0) (io), 16 MODB (GPIOH1) (io), 17 MODC (GPIOH2) (io), 18 VDDIO (power), 19 VSSIO (power), 20 ~{IRQA} (in), 21 ~{IRQB} (in), 22 VDDA (power), 23 VSSA (power), 24 XTAL (io), 25 EXTAL, 26 A4 (hiz), 27 A5 (hiz), 28 A6 (hiz), 29 A7 (hiz), 30 HD0 (GPIOB0) (io), 31 HD1 (GPIOB1) (io), 32 HD2 (GPIOB2) (io), 33 CLKO (out), 34 ~{RSTO} (out), 35 ~{RESET} (in), 36 HD3 (GPIOB3) (io), 37 HD4 (GPIOB4) (io), 38 HD5 (GPIOB5) (io), 39 HD6 (GPIOB6) (io), 40 HD7 (GPIOB7) (io), 41 VDDIO (power), 42 VSSIO (power), 43 A8 (hiz), 44 A9 (hiz), 45 A10 (hiz), 46 A11 (hiz), 47 VDD (power), 48 VSS (power), 49 ~{DE} (io), 50 ~{TRST} (in), 51 TDO (hiz), 52 TDI (in), 53 TMS (in), 54 TCK (in), 55 VDDIO (power), 56 VSSIO (power), 57 A12 (hiz), 58 A13 (hiz), 59 A14 (hiz), 60 A15 (hiz), 61 VDDIO (power), 62 VSSIO (power), 63 VSS (power), 64 VDD (power), 65 RXD0 (GPIOE0) (io), 66 TXDO (GPIOE1) (io), 67 A16 (hiz), 68 A17 (hiz), 69 A18 (hiz), 70 A19 (hiz), 71 A20 (hiz), 72 VDDIO (power), 73 D0 (io), 74 VSSIO (power), 75 ~{CS0} (GPIOA0) (io), 76 ~{CS1} (GPIOA1) (io), 77 ~{CS2} (GPIOA2) (io), 78 ~{CS3} (GPIOA3) (io), 79 VDD (power), 80 VDD (power), 81 VSS (power), 82 HA0 (GPIOB8) (io), 83 HA1 (GPIOB9) (io), 84 HA2 (GPIOB10) (io), 85 HRWB (~{HRD}, GPIOB11) (io), 86 D1 (io), 87 D2 (io), 88 D3 (io), 89 D4 (io), 90 D5 (io), 91 VDDIO (power), 92 VDDIO (power), 93 VSSIO (power), 94 RXD1 (GPIOE2) (io), 95 TXD1 (GPIOE3) (io), 96 VSS (power), 97 TIO3 (GPIOG3) (io), 98 TIO2 (GPIOG2) (io), 99 TIO1 (GPIOG1) (io), 100 VDDIO (power), 101 TIO0 (GPIOG0) (io), 102 VSSIO (power), 103 ~{HDS} (~{HWR}, GPIOB12) (io), 104 ~{HCS} (GPIOB13) (io), 105 ~{HREQ} (~{HTRQ}, GPIOB14) (io), 106 ~{HACK} (HRRQ, GPIOB15) (io), 107 D6 (io), 108 D7 (io), 109 D8 (io), 110 D9 (io), 111 D10 (io), 112 VDD (power), 113 VSS (power), 114 VDDIO (power), 115 VSSIO (power), 116 STD0 (GPIOC0) (io), 117 SRD0 (GPIOC1) (io), 118 SCK0 (GPIOC2) (io), 119 SC00 (GPIOC3) (io), 120 SC01 (GPIOC4) (io), 121 SC02 (GPIOC5) (io), 122 D11 (io), 123 D12 (io), 124 VDDIO (power), 125 VSSIO (power), 126 D13 (io), 127 D14 (io), 128 D15 (io)

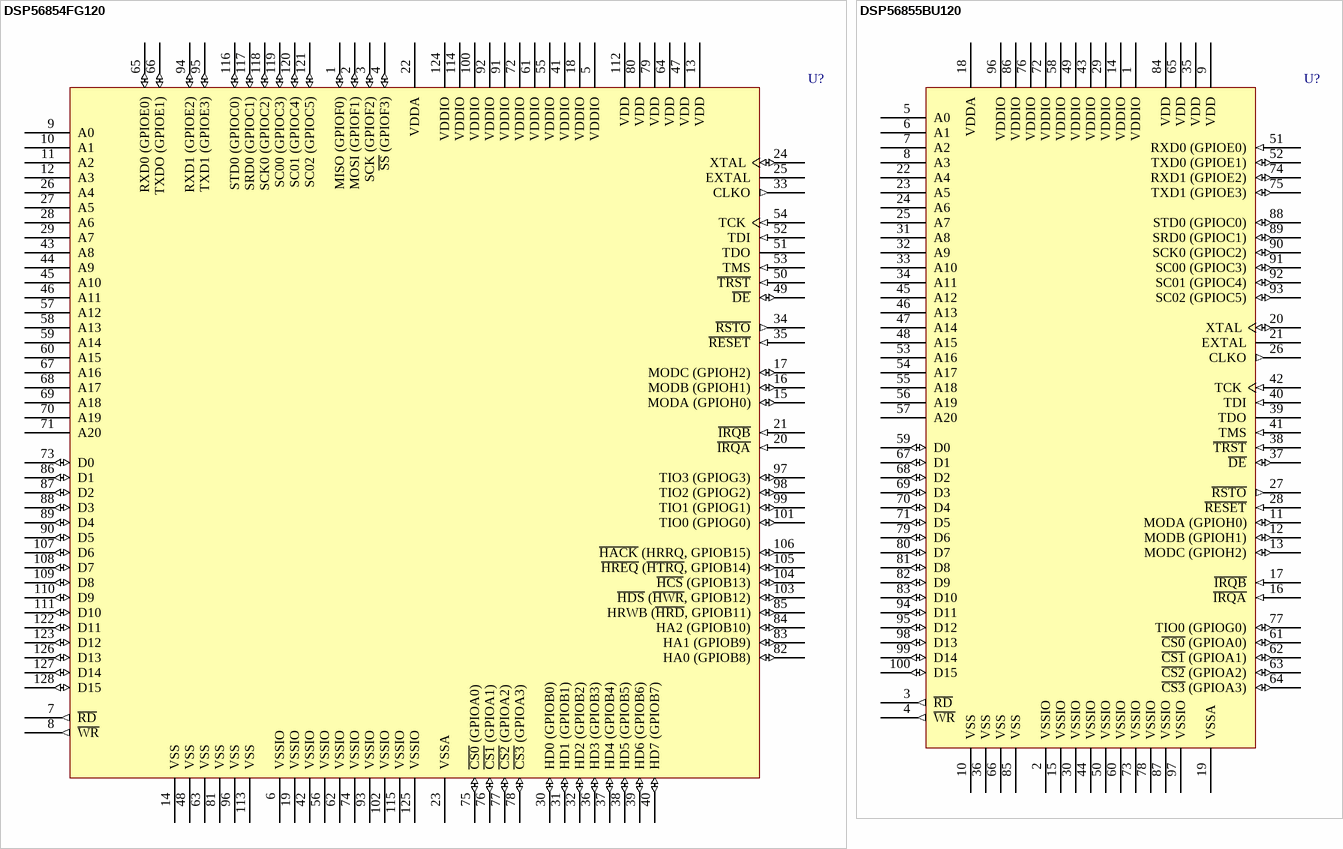
[diagram p7: symbols DSP56854FG120 to DSP56855BU120]

## DSP56854FG120
designator U?
DSP56800E General Purpose 16-Bit Fixed Point DSP; Published: 21-Mar-2003; LatestRevisionDate: 13-Apr-2006; LatestRevisionNote: IPC-7351 Footprint Added.; DatasheetVersion: Rev. 1.0, Jan-2002; PackageVersion: Dec-1994; PackageReference: 1129-01; Publisher: Altium Limited; PackageDescription: 128-Pin Thin Quad Flat Pack Rectangular 0.5 mm Pitch; ComponentLink1Description: Manufacturer Link; ComponentLink1URL: http://www.freescale.com/; ComponentLink2Description: Datasheet; ComponentLink2URL: http://www.freescale.com/files/dsp/doc/data_sheet/DSP56854.pdf
footprint 1129-01_N (Thin QFP, 128-Leads, Body 20x14 mm, Pitch 0.5mm, IPC Medium Density)
footprint 1129-01_L (Thin QFP, 128-Leads, Body 20x14 mm, Pitch 0.5mm, IPC High Density)
footprint 1129-01_M (Thin QFP, 128-Leads, Body 20x14 mm, Pitch 0.5mm, IPC Low Density)
3D model DSP56854-1129-01 (128-Pin Thin Quad Flat Pack Rectangular 0.5 mm Pitch)
pins: 1 MISO (GPIOF0) (io), 2 MOSI (GPIOF1) (io), 3 SCK (GPIOF2) (io), 4 ~{SS} (GPIOF3) (io), 5 VDDIO (power), 6 VSSIO (power), 7 ~{RD} (out), 8 ~{WR} (out), 9 A0 (hiz), 10 A1 (hiz), 11 A2 (hiz), 12 A3 (hiz), 13 VDD (power), 14 VSS (power), 15 MODA (GPIOH0) (io), 16 MODB (GPIOH1) (io), 17 MODC (GPIOH2) (io), 18 VDDIO (power), 19 VSSIO (power), 20 ~{IRQA} (in), 21 ~{IRQB} (in), 22 VDDA (power), 23 VSSA (power), 24 XTAL (io), 25 EXTAL, 26 A4 (hiz), 27 A5 (hiz), 28 A6 (hiz), 29 A7 (hiz), 30 HD0 (GPIOB0) (io), 31 HD1 (GPIOB1) (io), 32 HD2 (GPIOB2) (io), 33 CLKO (out), 34 ~{RSTO} (out), 35 ~{RESET} (in), 36 HD3 (GPIOB3) (io), 37 HD4 (GPIOB4) (io), 38 HD5 (GPIOB5) (io), 39 HD6 (GPIOB6) (io), 40 HD7 (GPIOB7) (io), 41 VDDIO (power), 42 VSSIO (power), 43 A8 (hiz), 44 A9 (hiz), 45 A10 (hiz), 46 A11 (hiz), 47 VDD (power), 48 VSS (power), 49 ~{DE} (io), 50 ~{TRST} (in), 51 TDO (hiz), 52 TDI (in), 53 TMS (in), 54 TCK (in), 55 VDDIO (power), 56 VSSIO (power), 57 A12 (hiz), 58 A13 (hiz), 59 A14 (hiz), 60 A15 (hiz), 61 VDDIO (power), 62 VSSIO (power), 63 VSS (power), 64 VDD (power), 65 RXD0 (GPIOE0) (io), 66 TXDO (GPIOE1) (io), 67 A16 (hiz), 68 A17 (hiz), 69 A18 (hiz), 70 A19 (hiz), 71 A20 (hiz), 72 VDDIO (power), 73 D0 (io), 74 VSSIO (power), 75 ~{CS0} (GPIOA0) (io), 76 ~{CS1} (GPIOA1) (io), 77 ~{CS2} (GPIOA2) (io), 78 ~{CS3} (GPIOA3) (io), 79 VDD (power), 80 VDD (power), 81 VSS (power), 82 HA0 (GPIOB8) (io), 83 HA1 (GPIOB9) (io), 84 HA2 (GPIOB10) (io), 85 HRWB (~{HRD}, GPIOB11) (io), 86 D1 (io), 87 D2 (io), 88 D3 (io), 89 D4 (io), 90 D5 (io), 91 VDDIO (power), 92 VDDIO (power), 93 VSSIO (power), 94 RXD1 (GPIOE2) (io), 95 TXD1 (GPIOE3) (io), 96 VSS (power), 97 TIO3 (GPIOG3) (io), 98 TIO2 (GPIOG2) (io), 99 TIO1 (GPIOG1) (io), 100 VDDIO (power), 101 TIO0 (GPIOG0) (io), 102 VSSIO (power), 103 ~{HDS} (~{HWR}, GPIOB12) (io), 104 ~{HCS} (GPIOB13) (io), 105 ~{HREQ} (~{HTRQ}, GPIOB14) (io), 106 ~{HACK} (HRRQ, GPIOB15) (io), 107 D6 (io), 108 D7 (io), 109 D8 (io), 110 D9 (io), 111 D10 (io), 112 VDD (power), 113 VSS (power), 114 VDDIO (power), 115 VSSIO (power), 116 STD0 (GPIOC0) (io), 117 SRD0 (GPIOC1) (io), 118 SCK0 (GPIOC2) (io), 119 SC00 (GPIOC3) (io), 120 SC01 (GPIOC4) (io), 121 SC02 (GPIOC5) (io), 122 D11 (io), 123 D12 (io), 124 VDDIO (power), 125 VSSIO (power), 126 D13 (io), 127 D14 (io), 128 D15 (io)

## DSP56855BU120
designator U?
DSP56800E General Purpose 16-Bit Fixed Point DSP; Published: 21-Mar-2003; LatestRevisionDate: 13-Apr-2006; LatestRevisionNote: IPC-7351 Footprint Added.; DatasheetVersion: Rev. 1.0, Jan-2002; PackageVersion: rev4, Jan-2002; PackageReference: 842F-01; Publisher: Altium Limited; PackageDescription: 100-Pin Thin Quad Flat Pack 0.5 mm Pitch; ComponentLink1Description: Manufacturer Link; ComponentLink1URL: http://www.freescale.com/; ComponentLink2Description: Datasheet; ComponentLink2URL: http://www.freescale.com/files/dsp/doc/data_sheet/DSP56855.pdf
footprint 842F-01_N (Thin QFP, 100-Leads, Body 14x14mm, Pitch 0.5mm, IPC Medium Density)
footprint 842F-01_L (Thin QFP, 100-Leads, Body 14x14mm, Pitch 0.5mm, IPC High Density)
footprint 842F-01_M (Thin QFP, 100-Leads, Body 14x14mm, Pitch 0.5mm, IPC Low Density)
3D model DSP56855-842F-01 (100-Pin Thin Quad Flat Pack 0.5 mm Pitch)
pins: 1 VDDIO (power), 2 VSSIO (power), 3 ~{RD} (out), 4 ~{WR} (out), 5 A0 (hiz), 6 A1 (hiz), 7 A2 (hiz), 8 A3 (hiz), 9 VDD (power), 10 VSS (power), 11 MODA (GPIOH0) (io), 12 MODB (GPIOH1) (io), 13 MODC (GPIOH2) (io), 14 VDDIO (power), 15 VSSIO (power), 16 ~{IRQA} (in), 17 ~{IRQB} (in), 18 VDDA (power), 19 VSSA (power), 20 XTAL (io), 21 EXTAL, 22 A4 (hiz), 23 A5 (hiz), 24 A6 (hiz), 25 A7 (hiz), 26 CLKO (out), 27 ~{RSTO} (out), 28 ~{RESET} (in), 29 VDDIO (power), 30 VSSIO (power), 31 A8 (hiz), 32 A9 (hiz), 33 A10 (hiz), 34 A11 (hiz), 35 VDD (power), 36 VSS (power), 37 ~{DE} (io), 38 ~{TRST} (in), 39 TDO (hiz), 40 TDI (in), 41 TMS (in), 42 TCK (in), 43 VDDIO (power), 44 VSSIO (power), 45 A12 (hiz), 46 A13 (hiz), 47 A14 (hiz), 48 A15 (hiz), 49 VDDIO (power), 50 VSSIO (power), 51 RXD0 (GPIOE0) (in), 52 TXD0 (GPIOE1) (io), 53 A16 (hiz), 54 A17 (hiz), 55 A18 (hiz), 56 A19 (hiz), 57 A20 (hiz), 58 VDDIO (power), 59 D0 (io), 60 VSSIO (power), 61 ~{CS0} (GPIOA0) (io), 62 ~{CS1} (GPIOA1) (io), 63 ~{CS2} (GPIOA2) (io), 64 ~{CS3} (GPIOA3) (io), 65 VDD (power), 66 VSS (power), 67 D1 (io), 68 D2 (io), 69 D3 (io), 70 D4 (io), 71 D5 (io), 72 VDDIO (power), 73 VSSIO (power), 74 RXD1 (GPIOE2) (io), 75 TXD1 (GPIOE3) (io), 76 VDDIO (power), 77 TIO0 (GPIOG0) (io), 78 VSSIO (power), 79 D6 (io), 80 D7 (io), 81 D8 (io), 82 D9 (io), 83 D10 (io), 84 VDD (power), 85 VSS (power), 86 VDDIO (power), 87 VSSIO (power), 88 STD0 (GPIOC0) (io), 89 SRD0 (GPIOC1) (io), 90 SCK0 (GPIOC2) (io), 91 SC00 (GPIOC3) (io), 92 SC01 (GPIOC4) (io), 93 SC02 (GPIOC5) (io), 94 D11 (io), 95 D12 (io), 96 VDDIO (power), 97 VSSIO (power), 98 D13 (io), 99 D14 (io), 100 D15 (io)

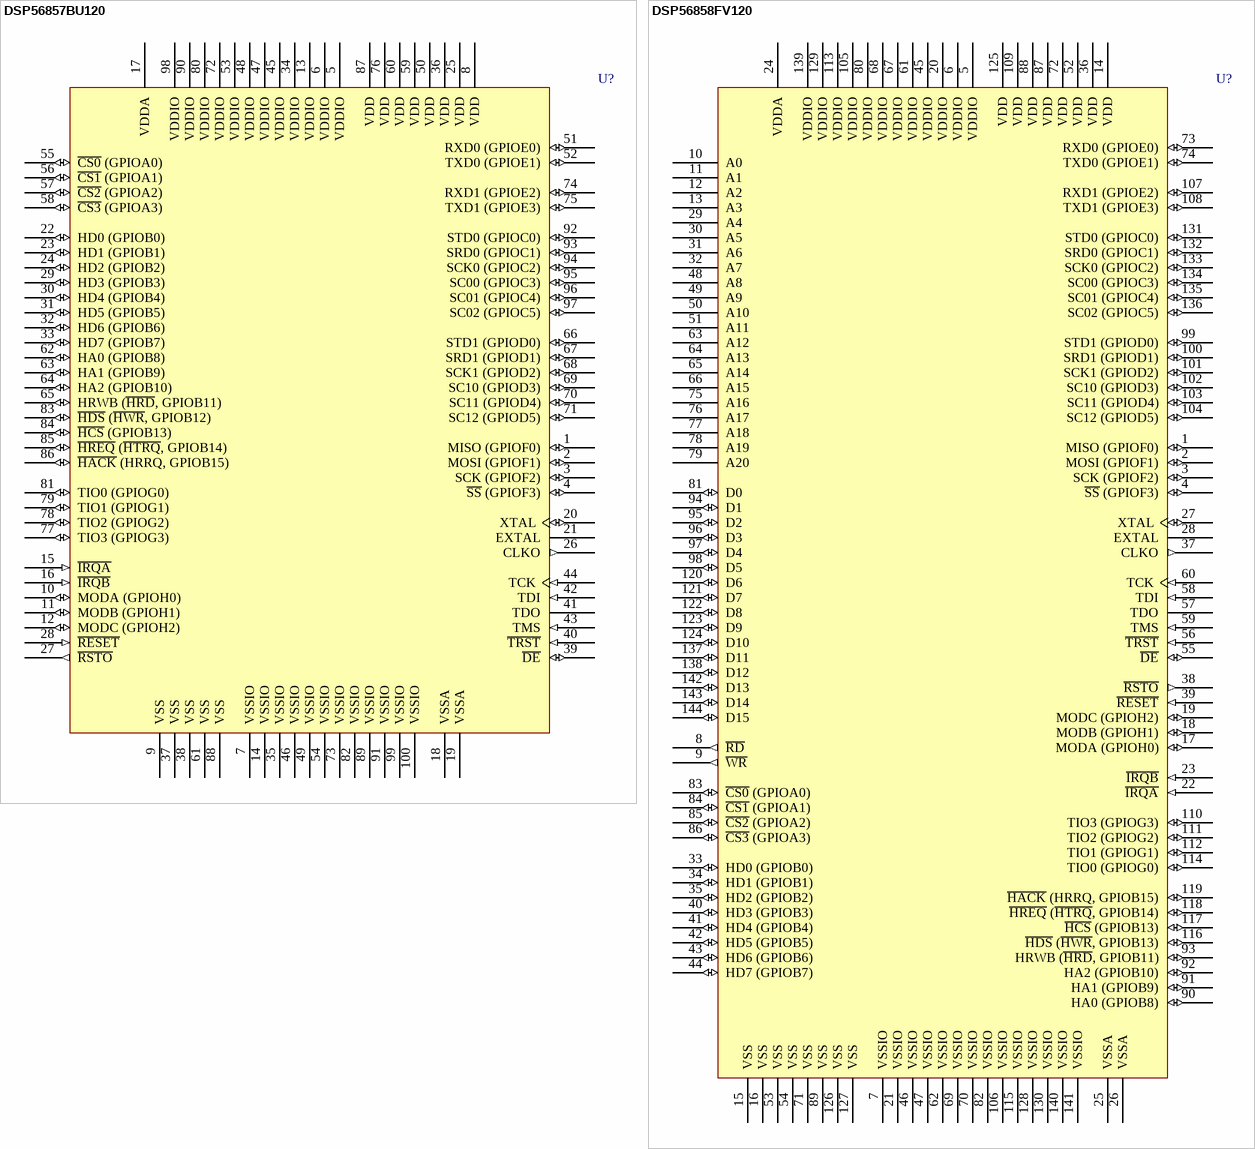
[diagram p8: symbols DSP56857BU120 to DSP56858FV120]

## DSP56857BU120
designator U?
DSP56800E General Purpose 16-Bit Fixed Point DSP; Published: 21-Mar-2003; LatestRevisionDate: 13-Apr-2006; LatestRevisionNote: IPC-7351 Footprint Added.; DatasheetVersion: Rev. 1.0, Jan-2002; PackageVersion: rev4, Jan-2002; PackageReference: 842F-01; Publisher: Altium Limited; PackageDescription: 100-Pin Thin Quad Flat Pack 0.5 mm Pitch; ComponentLink1Description: Manufacturer Link; ComponentLink1URL: http://www.freescale.com/; ComponentLink2Description: Datasheet; ComponentLink2URL: http://www.freescale.com/files/dsp/doc/data_sheet/DSP56857.pdf
footprint 842F-01_N (Thin QFP, 100-Leads, Body 14x14mm, Pitch 0.5mm, IPC Medium Density)
footprint 842F-01_L (Thin QFP, 100-Leads, Body 14x14mm, Pitch 0.5mm, IPC High Density)
footprint 842F-01_M (Thin QFP, 100-Leads, Body 14x14mm, Pitch 0.5mm, IPC Low Density)
3D model DSP56857-842F-01 (100-Pin Thin Quad Flat Pack 0.5 mm Pitch)
pins: 1 MISO (GPIOF0) (io), 2 MOSI (GPIOF1) (io), 3 SCK (GPIOF2) (io), 4 ~{SS} (GPIOF3) (io), 5 VDDIO (power), 6 VDDIO (power), 7 VSSIO (power), 8 VDD (power), 9 VSS (power), 10 MODA (GPIOH0) (io), 11 MODB (GPIOH1) (io), 12 MODC (GPIOH2) (io), 13 VDDIO (power), 14 VSSIO (power), 15 ~{IRQA} (in), 16 ~{IRQB} (in), 17 VDDA (power), 18 VSSA (power), 19 VSSA (power), 20 XTAL (io), 21 EXTAL, 22 HD0 (GPIOB0) (io), 23 HD1 (GPIOB1) (io), 24 HD2 (GPIOB2) (io), 25 VDD (power), 26 CLKO (out), 27 ~{RSTO} (out), 28 ~{RESET} (in), 29 HD3 (GPIOB3) (io), 30 HD4 (GPIOB4) (io), 31 HD5 (GPIOB5) (io), 32 HD6 (GPIOB6) (io), 33 HD7 (GPIOB7) (io), 34 VDDIO (power), 35 VSSIO (power), 36 VDD (power), 37 VSS (power), 38 VSS (power), 39 ~{DE} (io), 40 ~{TRST} (in), 41 TDO (hiz), 42 TDI (in), 43 TMS (in), 44 TCK (in), 45 VDDIO (power), 46 VSSIO (power), 47 VDDIO (power), 48 VDDIO (power), 49 VSSIO (power), 50 VDD (power), 51 RXD0 (GPIOE0) (io), 52 TXD0 (GPIOE1) (io), 53 VDDIO (power), 54 VSSIO (power), 55 ~{CS0} (GPIOA0) (io), 56 ~{CS1} (GPIOA1) (io), 57 ~{CS2} (GPIOA2) (io), 58 ~{CS3} (GPIOA3) (io), 59 VDD (power), 60 VDD (power), 61 VSS (power), 62 HA0 (GPIOB8) (io), 63 HA1 (GPIOB9) (io), 64 HA2 (GPIOB10) (io), 65 HRWB (~{HRD}, GPIOB11) (io), 66 STD1 (GPIOD0) (io), 67 SRD1 (GPIOD1) (io), 68 SCK1 (GPIOD2) (io), 69 SC10 (GPIOD3) (io), 70 SC11 (GPIOD4) (io), 71 SC12 (GPIOD5) (io), 72 VDDIO (power), 73 VSSIO (power), 74 RXD1 (GPIOE2) (io), 75 TXD1 (GPIOE3) (io), 76 VDD (power), 77 TIO3 (GPIOG3) (io), 78 TIO2 (GPIOG2) (io), 79 TIO1 (GPIOG1) (io), 80 VDDIO (power), 81 TIO0 (GPIOG0) (io), 82 VSSIO (power), 83 ~{HDS} (~{HWR}, GPIOB12) (io), 84 ~{HCS} (GPIOB13) (io), 85 ~{HREQ} (~{HTRQ}, GPIOB14) (io), 86 ~{HACK} (HRRQ, GPIOB15) (io), 87 VDD (power), 88 VSS (power), 89 VSSIO (power), 90 VDDIO (power), 91 VSSIO (power), 92 STD0 (GPIOC0) (io), 93 SRD0 (GPIOC1) (io), 94 SCK0 (GPIOC2) (io), 95 SC00 (GPIOC3) (io), 96 SC01 (GPIOC4) (io), 97 SC02 (GPIOC5) (io), 98 VDDIO (power), 99 VSSIO (power), 100 VSSIO (power)

## DSP56858FV120
designator U?
DSP56800E General Purpose 16-Bit Fixed Point DSP; Published: 21-Mar-2003; LatestRevisionDate: 13-Apr-2006; LatestRevisionNote: IPC-7351 Footprint Added.; DatasheetVersion: Rev. 1.0, Jan-2002; PackageVersion: revF, May-2005; PackageReference: 918-03; Publisher: Altium Limited; PackageDescription: 144-Pin Low Profile Quad Flat Pack 0.5 mm Pitch (918-03); ComponentLink1Description: Manufacturer Link; ComponentLink1URL: http://www.freescale.com/; ComponentLink2Description: Datasheet; ComponentLink2URL: http://www.freescale.com/files/dsp/doc/data_sheet/DSP56858.pdf
footprint 918-03_N (Thin QFP, 144-Leads, Body 20x20mm, Pitch 0.5mm, IPC Medium Density)
footprint 918-03_L (Thin QFP, 144-Leads, Body 20x20mm, Pitch 0.5mm, IPC High Density)
footprint 918-03_M (Thin QFP, 144-Leads, Body 20x20mm, Pitch 0.5mm, IPC Low Density)
3D model DSP56858-918-03 (144-Pin Low Profile Quad Flat Pack 0.5 mm Pitch (918-03))
pins: 1 MISO (GPIOF0) (io), 2 MOSI (GPIOF1) (io), 3 SCK (GPIOF2) (io), 4 ~{SS} (GPIOF3) (io), 5 VDDIO (power), 6 VDDIO (power), 7 VSSIO (power), 8 ~{RD} (out), 9 ~{WR} (out), 10 A0 (hiz), 11 A1 (hiz), 12 A2 (hiz), 13 A3 (hiz), 14 VDD (power), 15 VSS (power), 16 VSS (power), 17 MODA (GPIOH0) (io), 18 MODB (GPIOH1) (io), 19 MODC (GPIOH2) (io), 20 VDDIO (power), 21 VSSIO (power), 22 ~{IRQA} (in), 23 ~{IRQB} (in), 24 VDDA (power), 25 VSSA (power), 26 VSSA (power), 27 XTAL (io), 28 EXTAL, 29 A4 (hiz), 30 A5 (hiz), 31 A6 (hiz), 32 A7 (hiz), 33 HD0 (GPIOB0) (io), 34 HD1 (GPIOB1) (io), 35 HD2 (GPIOB2) (io), 36 VDD (power), 37 CLKO (out), 38 ~{RSTO} (out), 39 ~{RESET} (in), 40 HD3 (GPIOB3) (io), 41 HD4 (GPIOB4) (io), 42 HD5 (GPIOB5) (io), 43 HD6 (GPIOB6) (io), 44 HD7 (GPIOB7) (io), 45 VDDIO (power), 46 VSSIO (power), 47 VSSIO (power), 48 A8 (hiz), 49 A9 (hiz), 50 A10 (hiz), 51 A11 (hiz), 52 VDD (power), 53 VSS (power), 54 VSS (power), 55 ~{DE} (io), 56 ~{TRST} (in), 57 TDO (hiz), 58 TDI (in), 59 TMS (in), 60 TCK (in), 61 VDDIO (power), 62 VSSIO (power), 63 A12 (hiz), 64 A13 (hiz), 65 A14 (hiz), 66 A15 (hiz), 67 VDDIO (power), 68 VDDIO (power), 69 VSSIO (power), 70 VSSIO (power), 71 VSS (power), 72 VDD (power), 73 RXD0 (GPIOE0) (io), 74 TXD0 (GPIOE1) (io), 75 A16 (hiz), 76 A17 (hiz), 77 A18 (hiz), 78 A19 (hiz), 79 A20 (hiz), 80 VDDIO (power), 81 D0 (io), 82 VSSIO (power), 83 ~{CS0} (GPIOA0) (io), 84 ~{CS1} (GPIOA1) (io), 85 ~{CS2} (GPIOA2) (io), 86 ~{CS3} (GPIOA3) (io), 87 VDD (power), 88 VDD (power), 89 VSS (power), 90 HA0 (GPIOB8) (io), 91 HA1 (GPIOB9) (io), 92 HA2 (GPIOB10) (io), 93 HRWB (~{HRD}, GPIOB11) (io), 94 D1 (io), 95 D2 (io), 96 D3 (io), 97 D4 (io), 98 D5 (io), 99 STD1 (GPIOD0) (io), 100 SRD1 (GPIOD1) (io), 101 SCK1 (GPIOD2) (io), 102 SC10 (GPIOD3) (io), 103 SC11 (GPIOD4) (io), 104 SC12 (GPIOD5) (io), 105 VDDIO (power), 106 VSSIO (power), 107 RXD1 (GPIOE2) (io), 108 TXD1 (GPIOE3) (io), 109 VDD (power), 110 TIO3 (GPIOG3) (io), 111 TIO2 (GPIOG2) (io), 112 TIO1 (GPIOG1) (io), 113 VDDIO (power), 114 TIO0 (GPIOG0) (io), 115 VSSIO (power), 116 ~{HDS} (~{HWR}, GPIOB13) (io), 117 ~{HCS} (GPIOB13) (io), 118 ~{HREQ} (~{HTRQ}, GPIOB14) (io), 119 ~{HACK} (HRRQ, GPIOB15) (io), 120 D6 (io), 121 D7 (io), 122 D8 (io), 123 D9 (io), 124 D10 (io), 125 VDD (power), 126 VSS (power), 127 VSS (power), 128 VSSIO (power), 129 VDDIO (power), 130 VSSIO (power), 131 STD0 (GPIOC0) (io), 132 SRD0 (GPIOC1) (io), 133 SCK0 (GPIOC2) (io), 134 SC00 (GPIOC3) (io), 135 SC01 (GPIOC4) (io), 136 SC02 (GPIOC5) (io), 137 D11 (io), 138 D12 (io), 139 VDDIO (power), 140 VSSIO (power), 141 VSSIO (power), 142 D13 (io), 143 D14 (io), 144 D15 (io)

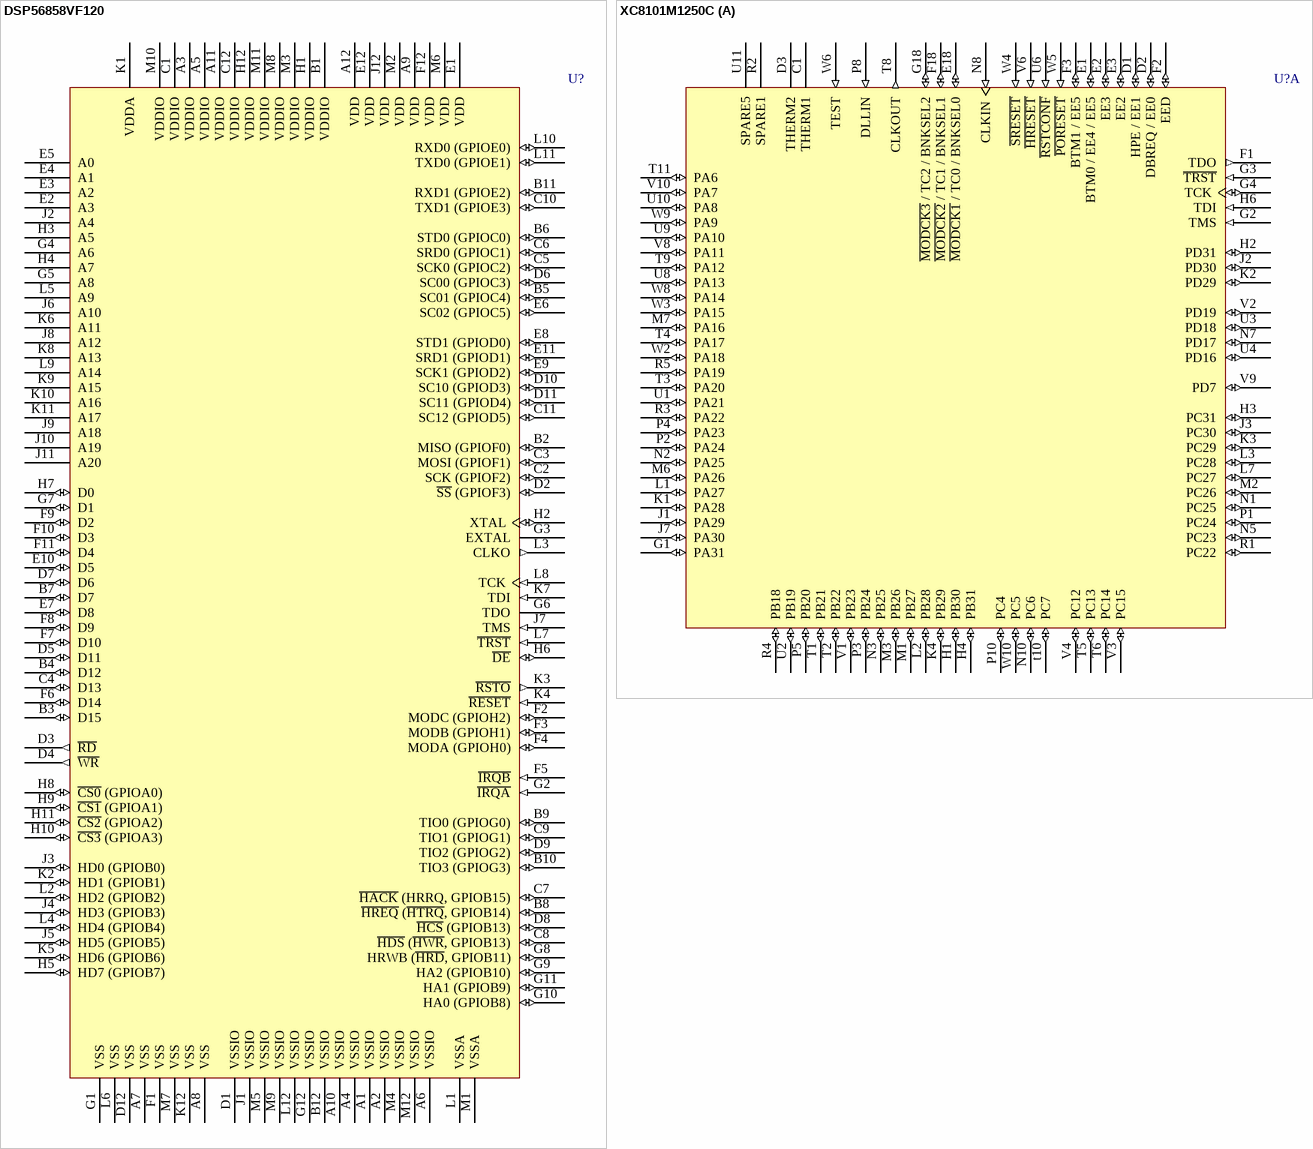
[diagram p9: symbols DSP56858VF120 to XC8101M1250C]

## DSP56858VF120
designator U?
DSP56800E General Purpose 16-Bit Fixed Point DSP; Published: 21-Mar-2003; LatestRevisionDate: 13-Apr-2006; LatestRevisionNote: IPC-7351 Footprint Added.; DatasheetVersion: Rev. 1.0, Jan-2002; PackageVersion: rev1, Jan-2002; PackageReference: 1242A-03; Publisher: Altium Limited; PackageDescription: 144-Ball MAP-Ball Grid Array 1 mm Pitch; ComponentLink1Description: Manufacturer Link; ComponentLink1URL: http://www.freescale.com/; ComponentLink2Description: Datasheet; ComponentLink2URL: http://www.freescale.com/files/dsp/doc/data_sheet/DSP56858.pdf
footprint 1242A-03 (BGA, 144-Leads, Body 13x13mm, Pitch 1mm)
3D model DSP56858-1242A-03 (144-Ball MAP-Ball Grid Array 1 mm Pitch)
pins: A1 VSSIO (power), A2 VSSIO (power), A3 VDDIO (power), A4 VSSIO (power), A5 VDDIO (power), A6 VSSIO (power), A7 VSS (power), A8 VSS (power), A9 VDD (power), A10 VSSIO (power), A11 VDDIO (power), A12 VDD (power), B1 VDDIO (power), B2 MISO (GPIOF0) (io), B3 D15 (io), B4 D12 (io), B5 SC01 (GPIOC4) (io), B6 STD0 (GPIOC0) (io), B7 D7 (io), B8 ~{HREQ} (~{HTRQ}, GPIOB14) (io), B9 TIO0 (GPIOG0) (io), B10 TIO3 (GPIOG3) (io), B11 RXD1 (GPIOE2) (io), B12 VSSIO (power), C1 VDDIO (power), C2 SCK (GPIOF2) (io), C3 MOSI (GPIOF1) (io), C4 D13 (io), C5 SCK0 (GPIOC2) (io), C6 SRD0 (GPIOC1) (io), C7 ~{HACK} (HRRQ, GPIOB15) (io), C8 ~{HDS} (~{HWR}, GPIOB13) (io), C9 TIO1 (GPIOG1) (io), C10 TXD1 (GPIOE3) (io), C11 SC12 (GPIOD5) (io), C12 VDDIO (power), D1 VSSIO (power), D2 ~{SS} (GPIOF3) (io), D3 ~{RD} (out), D4 ~{WR} (out), D5 D11 (io), D6 SC00 (GPIOC3) (io), D7 D6 (io), D8 ~{HCS} (GPIOB13) (io), D9 TIO2 (GPIOG2) (io), D10 SC10 (GPIOD3) (io), D11 SC11 (GPIOD4) (io), D12 VSS (power), E1 VDD (power), E2 A3 (hiz), E3 A2 (hiz), E4 A1 (hiz), E5 A0 (hiz), E6 SC02 (GPIOC5) (io), E7 D8 (io), E8 STD1 (GPIOD0) (io), E9 SCK1 (GPIOD2) (io), E10 D5 (io), E11 SRD1 (GPIOD1) (io), E12 VDD (power), F1 VSS (power), F2 MODC (GPIOH2) (io), F3 MODB (GPIOH1) (io), F4 MODA (GPIOH0) (io), F5 ~{IRQB} (in), F6 D14 (io), F7 D10 (io), F8 D9 (io), F9 D2 (io), F10 D3 (io), F11 D4 (io), F12 VDD (power), G1 VSS (power), G2 ~{IRQA} (in), G3 EXTAL, G4 A6 (hiz), G5 A8 (hiz), G6 TDO (hiz), G7 D1 (io), G8 HRWB (~{HRD}, GPIOB11) (io), G9 HA2 (GPIOB10) (io), G10 HA0 (GPIOB8) (io), G11 HA1 (GPIOB9) (io), G12 VSSIO (power), H1 VDDIO (power), H2 XTAL (io), H3 A5 (hiz), H4 A7 (hiz), H5 HD7 (GPIOB7) (io), H6 ~{DE} (io), H7 D0 (io), H8 ~{CS0} (GPIOA0) (io), H9 ~{CS1} (GPIOA1) (io), H10 ~{CS3} (GPIOA3) (io), H11 ~{CS2} (GPIOA2) (io), H12 VDDIO (power), J1 VSSIO (power), J2 A4 (hiz), J3 HD0 (GPIOB0) (io), J4 HD3 (GPIOB3) (io), J5 HD5 (GPIOB5) (io), J6 A10 (hiz), J7 TMS (in), J8 A12 (hiz), J9 A18 (hiz), J10 A19 (hiz), J11 A20 (hiz), J12 VDD (power), K1 VDDA (power), K2 HD1 (GPIOB1) (io), K3 ~{RSTO} (out), K4 ~{RESET} (in), K5 HD6 (GPIOB6) (io), K6 A11 (hiz), K7 TDI (in), K8 A13 (hiz), K9 A15 (hiz), K10 A16 (hiz), K11 A17 (hiz), K12 VSS (power), L1 VSSA (power), L2 HD2 (GPIOB2) (io), L3 CLKO (out), L4 HD4 (GPIOB4) (io), L5 A9 (hiz), L6 VSS (power), L7 ~{TRST} (in), L8 TCK (in), L9 A14 (hiz), L10 RXD0 (GPIOE0) (io), L11 TXD0 (GPIOE1) (io), L12 VSSIO (power), M1 VSSA (power), M2 VDD (power), M3 VDDIO (power), M4 VSSIO (power), M5 VSSIO (power), M6 VDD (power), M7 VSS (power), M8 VDDIO (power), M9 VSSIO (power), M10 VDDIO (power), M11 VDDIO (power), M12 VSSIO (power)

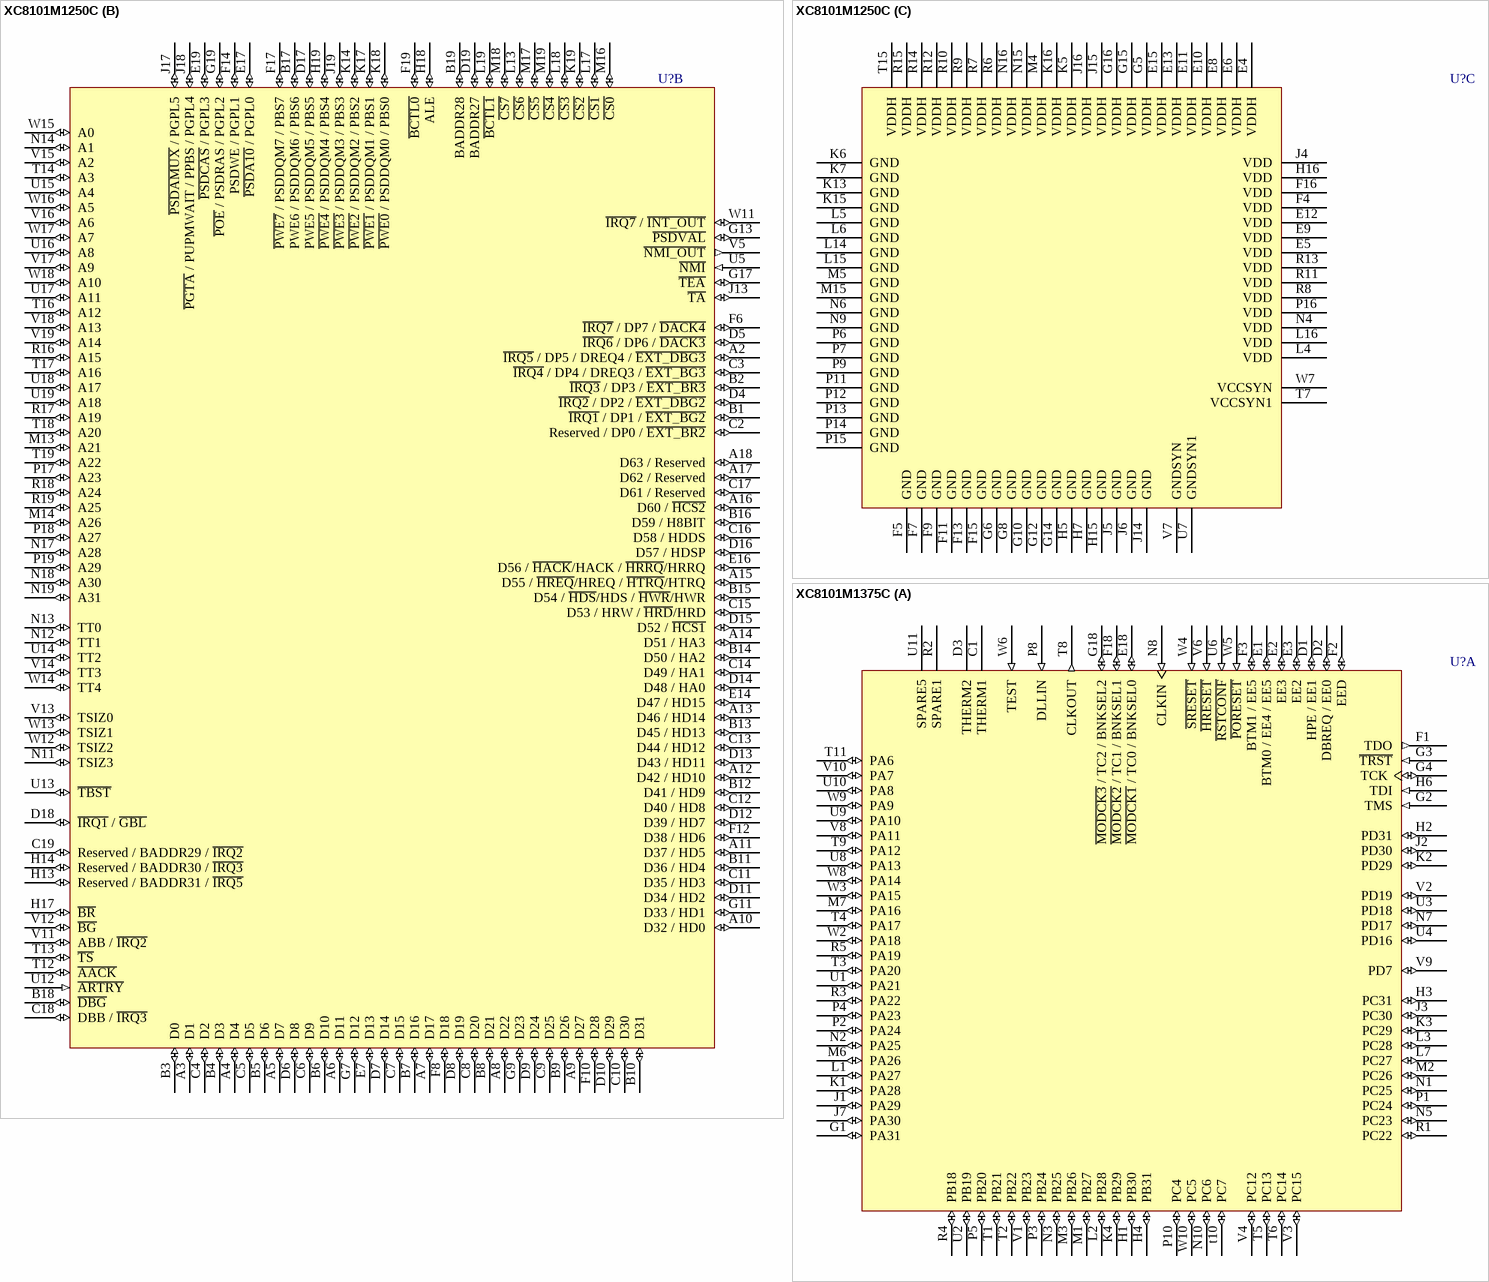
[diagram p10: symbols XC8101M1250C to XC8101M1375C]